# Altium schematic symbol library MCU_ST_STM32L4.SchLib: 130 symbols (part 1 of 5)
Pins are listed as number, name and electrical type; pins without a type are passive.

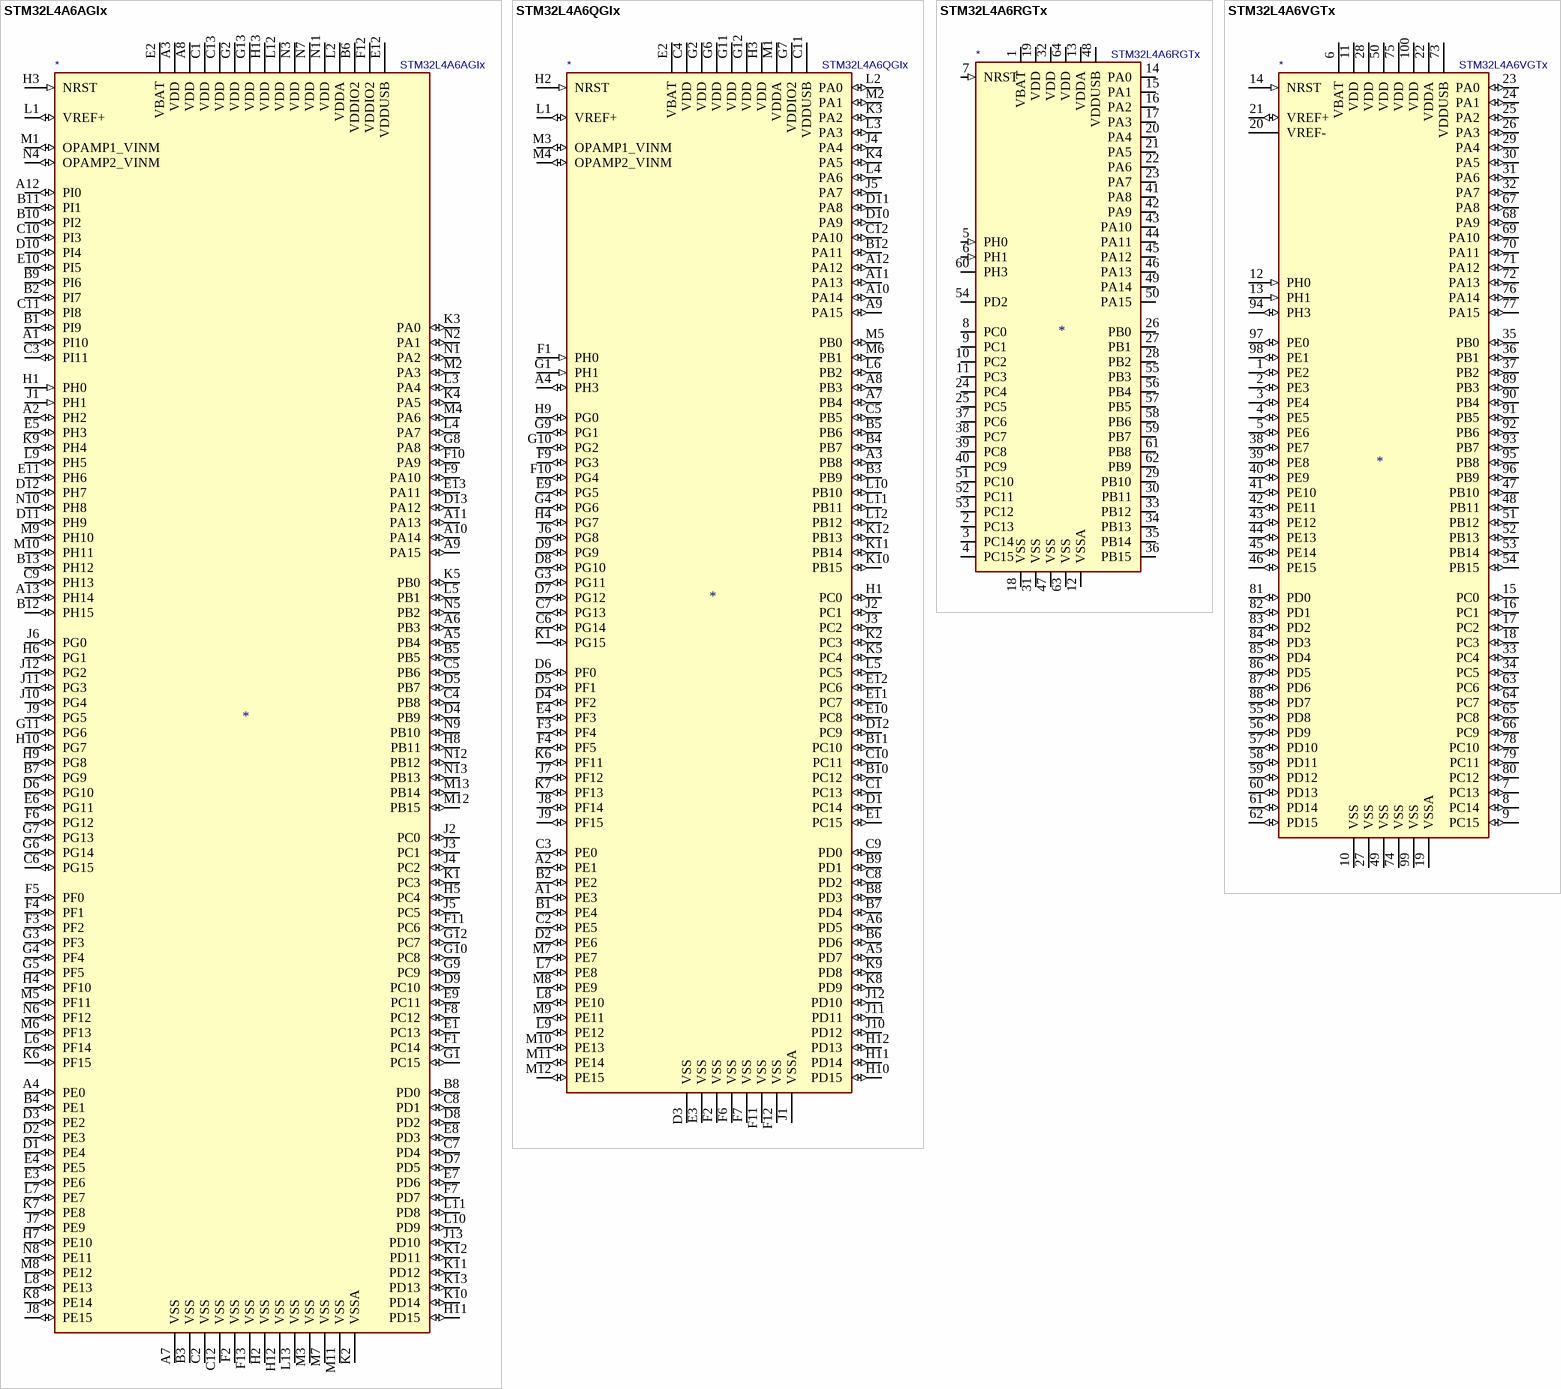
[diagram p0: symbols STM32L4A6AGIx to STM32L4A6VGTx]

## STM32L4A6AGIx
designator *  value STM32L4A6AGIx
ki_keywords: ARM Cortex-M4 STM32L4 STM32L4x6; ki_description: ARM Cortex-M4 MCU, 1024KB flash, 320KB RAM, 80MHz, 1.71-3.6V, 136 GPIO, UFBGA-169; ki_fp_filters: UFBGA*7x7mm*Layout13x13*P0.5mm*; Footprint: Package_BGA:UFBGA-169_7x7mm_Layout13x13_P0.5mm; Supplier: http://www.st.com/st-web-ui/static/active/en/resource/technical/document/datasheet/DM00284207.pdf
footprint UFBGA-169_7x7mm_Layout13x13_P0.5mm
pins: A1 PI10 (io), A2 PH2 (io), A3 VDD (power), A4 PE0 (io), A5 PB4 (io), A6 PB3 (io), A7 VSS (power), A8 VDD (power), A9 PA15 (io), A10 PA14 (io), A11 PA13 (io), A12 PI0 (io), A13 PH14 (io), B1 PI9 (io), B2 PI7 (io), B3 VSS (power), B4 PE1 (io), B5 PB5 (io), B6 VDDIO2 (power), B7 PG9 (io), B8 PD0 (io), B9 PI6 (io), B10 PI2 (io), B11 PI1 (io), B12 PH15 (io), B13 PH12 (io), C1 VDD (power), C2 VSS (power), C3 PI11 (io), C4 PB8 (io), C5 PB6 (io), C6 PG15 (io), C7 PD4 (io), C8 PD1 (io), C9 PH13 (io), C10 PI3 (io), C11 PI8 (io), C12 VSS (power), C13 VDD (power), D1 PE4 (io), D2 PE3 (io), D3 PE2 (io), D4 PB9 (io), D5 PB7 (io), D6 PG10 (io), D7 PD5 (io), D8 PD2 (io), D9 PC10 (io), D10 PI4 (io), D11 PH9 (io), D12 PH7 (io), D13 PA12 (io), E1 PC13 (io), E2 VBAT (power), E3 PE6 (io), E4 PE5 (io), E5 PH3 (io), E6 PG11 (io), E7 PD6 (io), E8 PD3 (io), E9 PC11 (io), E10 PI5 (io), E11 PH6 (io), E12 VDDUSB (power), E13 PA11 (io), F1 PC14 (io), F2 VSS (power), F3 PF2 (io), F4 PF1 (io), F5 PF0 (io), F6 PG12 (io), F7 PD7 (io), F8 PC12 (io), F9 PA10 (io), F10 PA9 (io), F11 PC6 (io), F12 VDDIO2 (power), F13 VSS (power), G1 PC15 (io), G2 VDD (power), G3 PF3 (io), G4 PF4 (io), G5 PF5 (io), G6 PG14 (io), G7 PG13 (io), G8 PA8 (io), G9 PC9 (io), G10 PC8 (io), G11 PG6 (io), G12 PC7 (io), G13 VDD (power), H1 PH0 (in), H2 VSS (power), H3 NRST (in), H4 PF10 (io), H5 PC4 (io), H6 PG1 (io), H7 PE10 (io), H8 PB11 (io), H9 PG8 (io), H10 PG7 (io), H11 PD15 (io), H12 VSS (power), H13 VDD (power), J1 PH1 (in), J2 PC0 (io), J3 PC1 (io), J4 PC2 (io), J5 PC5 (io), J6 PG0 (io), J7 PE9 (io), J8 PE15 (io), J9 PG5 (io), J10 PG4 (io), J11 PG3 (io), J12 PG2 (io), J13 PD10 (io), K1 PC3 (io), K2 VSSA (power), K3 PA0 (io), K4 PA5 (io), K5 PB0 (io), K6 PF15 (io), K7 PE8 (io), K8 PE14 (io), K9 PH4 (io), K10 PD14 (io), K11 PD12 (io), K12 PD11 (io), K13 PD13 (io), L1 VREF+ (io), L2 VDDA (power), L3 PA4 (io), L4 PA7 (io), L5 PB1 (io), L6 PF14 (io), L7 PE7 (io), L8 PE13 (io), L9 PH5 (io), L10 PD9 (io), L11 PD8 (io), L12 VDD (power), L13 VSS (power), M1 OPAMP1_VINM (io), M2 PA3 (io), M3 VSS (power), M4 PA6 (io), M5 PF11 (io), M6 PF13 (io), M7 VSS (power), M8 PE12 (io), M9 PH10 (io), M10 PH11 (io), M11 VSS (power), M12 PB15 (io), M13 PB14 (io), N1 PA2 (io), N2 PA1 (io), N3 VDD (power), N4 OPAMP2_VINM (io), N5 PB2 (io), N6 PF12 (io), N7 VDD (power), N8 PE11 (io), N9 PB10 (io), N10 PH8 (io), N11 VDD (power), N12 PB12 (io), N13 PB13 (io)

## STM32L4A6QGIx
designator *  value STM32L4A6QGIx
ki_keywords: ARM Cortex-M4 STM32L4 STM32L4x6; ki_description: ARM Cortex-M4 MCU, 1024KB flash, 320KB RAM, 80MHz, 1.71-3.6V, 110 GPIO, UFBGA-132; ki_fp_filters: UFBGA*7x7mm*Layout12x12*P0.5mm*; Footprint: Package_BGA:UFBGA-132_7x7mm_Layout12x12_P0.5mm; Supplier: http://www.st.com/st-web-ui/static/active/en/resource/technical/document/datasheet/DM00284207.pdf
footprint UFBGA-132_7x7mm_Layout12x12_P0.5mm
pins: A1 PE3 (io), A2 PE1 (io), A3 PB8 (io), A4 PH3 (io), A5 PD7 (io), A6 PD5 (io), A7 PB4 (io), A8 PB3 (io), A9 PA15 (io), A10 PA14 (io), A11 PA13 (io), A12 PA12 (io), B1 PE4 (io), B2 PE2 (io), B3 PB9 (io), B4 PB7 (io), B5 PB6 (io), B6 PD6 (io), B7 PD4 (io), B8 PD3 (io), B9 PD1 (io), B10 PC12 (io), B11 PC10 (io), B12 PA11 (io), C1 PC13 (io), C2 PE5 (io), C3 PE0 (io), C4 VDD (power), C5 PB5 (io), C6 PG14 (io), C7 PG13 (io), C8 PD2 (io), C9 PD0 (io), C10 PC11 (io), C11 VDDUSB (power), C12 PA10 (io), D1 PC14 (io), D2 PE6 (io), D3 VSS (power), D4 PF2 (io), D5 PF1 (io), D6 PF0 (io), D7 PG12 (io), D8 PG10 (io), D9 PG9 (io), D10 PA9 (io), D11 PA8 (io), D12 PC9 (io), E1 PC15 (io), E2 VBAT (power), E3 VSS (power), E4 PF3 (io), E9 PG5 (io), E10 PC8 (io), E11 PC7 (io), E12 PC6 (io), F1 PH0 (in), F2 VSS (power), F3 PF4 (io), F4 PF5 (io), F6 VSS (power), F7 VSS (power), F9 PG3 (io), F10 PG4 (io), F11 VSS (power), F12 VSS (power), G1 PH1 (in), G2 VDD (power), G3 PG11 (io), G4 PG6 (io), G6 VDD (power), G7 VDDIO2 (power), G9 PG1 (io), G10 PG2 (io), G11 VDD (power), G12 VDD (power), H1 PC0 (io), H2 NRST (in), H3 VDD (power), H4 PG7 (io), H9 PG0 (io), H10 PD15 (io), H11 PD14 (io), H12 PD13 (io), J1 VSSA (power), J2 PC1 (io), J3 PC2 (io), J4 PA4 (io), J5 PA7 (io), J6 PG8 (io), J7 PF12 (io), J8 PF14 (io), J9 PF15 (io), J10 PD12 (io), J11 PD11 (io), J12 PD10 (io), K1 PG15 (io), K2 PC3 (io), K3 PA2 (io), K4 PA5 (io), K5 PC4 (io), K6 PF11 (io), K7 PF13 (io), K8 PD9 (io), K9 PD8 (io), K10 PB15 (io), K11 PB14 (io), K12 PB13 (io), L1 VREF+ (io), L2 PA0 (io), L3 PA3 (io), L4 PA6 (io), L5 PC5 (io), L6 PB2 (io), L7 PE8 (io), L8 PE10 (io), L9 PE12 (io), L10 PB10 (io), L11 PB11 (io), L12 PB12 (io), M1 VDDA (power), M2 PA1 (io), M3 OPAMP1_VINM (io), M4 OPAMP2_VINM (io), M5 PB0 (io), M6 PB1 (io), M7 PE7 (io), M8 PE9 (io), M9 PE11 (io), M10 PE13 (io), M11 PE14 (io), M12 PE15 (io)

## STM32L4A6RGTx
designator *  value STM32L4A6RGTx
ki_keywords: ARM Cortex-M4 STM32L4 STM32L4x6; ki_description: ARM Cortex-M4 MCU, 1024KB flash, 320KB RAM, 80MHz, 1.71-3.6V, 52 GPIO, LQFP-64; ki_fp_filters: LQFP*10x10mm*P0.5mm*; Footprint: Package_QFP:LQFP-64_10x10mm_P0.5mm; Supplier: http://www.st.com/st-web-ui/static/active/en/resource/technical/document/datasheet/DM00284207.pdf
footprint LQFP-64_10x10mm_P0.5mm
pins: 1 VBAT (power), 2 PC13 (io), 3 PC14 (io), 4 PC15 (io), 5 PH0 (in), 6 PH1 (in), 7 NRST (in), 8 PC0 (io), 9 PC1 (io), 10 PC2 (io), 11 PC3 (io), 12 VSSA (power), 13 VDDA (power), 14 PA0 (io), 15 PA1 (io), 16 PA2 (io), 17 PA3 (io), 18 VSS (power), 19 VDD (power), 20 PA4 (io), 21 PA5 (io), 22 PA6 (io), 23 PA7 (io), 24 PC4 (io), 25 PC5 (io), 26 PB0 (io), 27 PB1 (io), 28 PB2 (io), 29 PB10 (io), 30 PB11 (io), 31 VSS (power), 32 VDD (power), 33 PB12 (io), 34 PB13 (io), 35 PB14 (io), 36 PB15 (io), 37 PC6 (io), 38 PC7 (io), 39 PC8 (io), 40 PC9 (io), 41 PA8 (io), 42 PA9 (io), 43 PA10 (io), 44 PA11 (io), 45 PA12 (io), 46 PA13 (io), 47 VSS (power), 48 VDDUSB (power), 49 PA14 (io), 50 PA15 (io), 51 PC10 (io), 52 PC11 (io), 53 PC12 (io), 54 PD2 (io), 55 PB3 (io), 56 PB4 (io), 57 PB5 (io), 58 PB6 (io), 59 PB7 (io), 60 PH3 (io), 61 PB8 (io), 62 PB9 (io), 63 VSS (power), 64 VDD (power)

## STM32L4A6VGTx
designator *  value STM32L4A6VGTx
ki_keywords: ARM Cortex-M4 STM32L4 STM32L4x6; ki_description: ARM Cortex-M4 MCU, 1024KB flash, 320KB RAM, 80MHz, 1.71-3.6V, 83 GPIO, LQFP-100; ki_fp_filters: LQFP*14x14mm*P0.5mm*; Footprint: Package_QFP:LQFP-100_14x14mm_P0.5mm; Supplier: http://www.st.com/st-web-ui/static/active/en/resource/technical/document/datasheet/DM00284207.pdf
footprint LQFP-100_14x14mm_P0.5mm
pins: 1 PE2 (io), 2 PE3 (io), 3 PE4 (io), 4 PE5 (io), 5 PE6 (io), 6 VBAT (power), 7 PC13 (io), 8 PC14 (io), 9 PC15 (io), 10 VSS (power), 11 VDD (power), 12 PH0 (in), 13 PH1 (in), 14 NRST (in), 15 PC0 (io), 16 PC1 (io), 17 PC2 (io), 18 PC3 (io), 19 VSSA (power), 20 VREF- (power), 21 VREF+ (io), 22 VDDA (power), 23 PA0 (io), 24 PA1 (io), 25 PA2 (io), 26 PA3 (io), 27 VSS (power), 28 VDD (power), 29 PA4 (io), 30 PA5 (io), 31 PA6 (io), 32 PA7 (io), 33 PC4 (io), 34 PC5 (io), 35 PB0 (io), 36 PB1 (io), 37 PB2 (io), 38 PE7 (io), 39 PE8 (io), 40 PE9 (io), 41 PE10 (io), 42 PE11 (io), 43 PE12 (io), 44 PE13 (io), 45 PE14 (io), 46 PE15 (io), 47 PB10 (io), 48 PB11 (io), 49 VSS (power), 50 VDD (power), 51 PB12 (io), 52 PB13 (io), 53 PB14 (io), 54 PB15 (io), 55 PD8 (io), 56 PD9 (io), 57 PD10 (io), 58 PD11 (io), 59 PD12 (io), 60 PD13 (io), 61 PD14 (io), 62 PD15 (io), 63 PC6 (io), 64 PC7 (io), 65 PC8 (io), 66 PC9 (io), 67 PA8 (io), 68 PA9 (io), 69 PA10 (io), 70 PA11 (io), 71 PA12 (io), 72 PA13 (io), 73 VDDUSB (power), 74 VSS (power), 75 VDD (power), 76 PA14 (io), 77 PA15 (io), 78 PC10 (io), 79 PC11 (io), 80 PC12 (io), 81 PD0 (io), 82 PD1 (io), 83 PD2 (io), 84 PD3 (io), 85 PD4 (io), 86 PD5 (io), 87 PD6 (io), 88 PD7 (io), 89 PB3 (io), 90 PB4 (io), 91 PB5 (io), 92 PB6 (io), 93 PB7 (io), 94 PH3 (io), 95 PB8 (io), 96 PB9 (io), 97 PE0 (io), 98 PE1 (io), 99 VSS (power), 100 VDD (power)

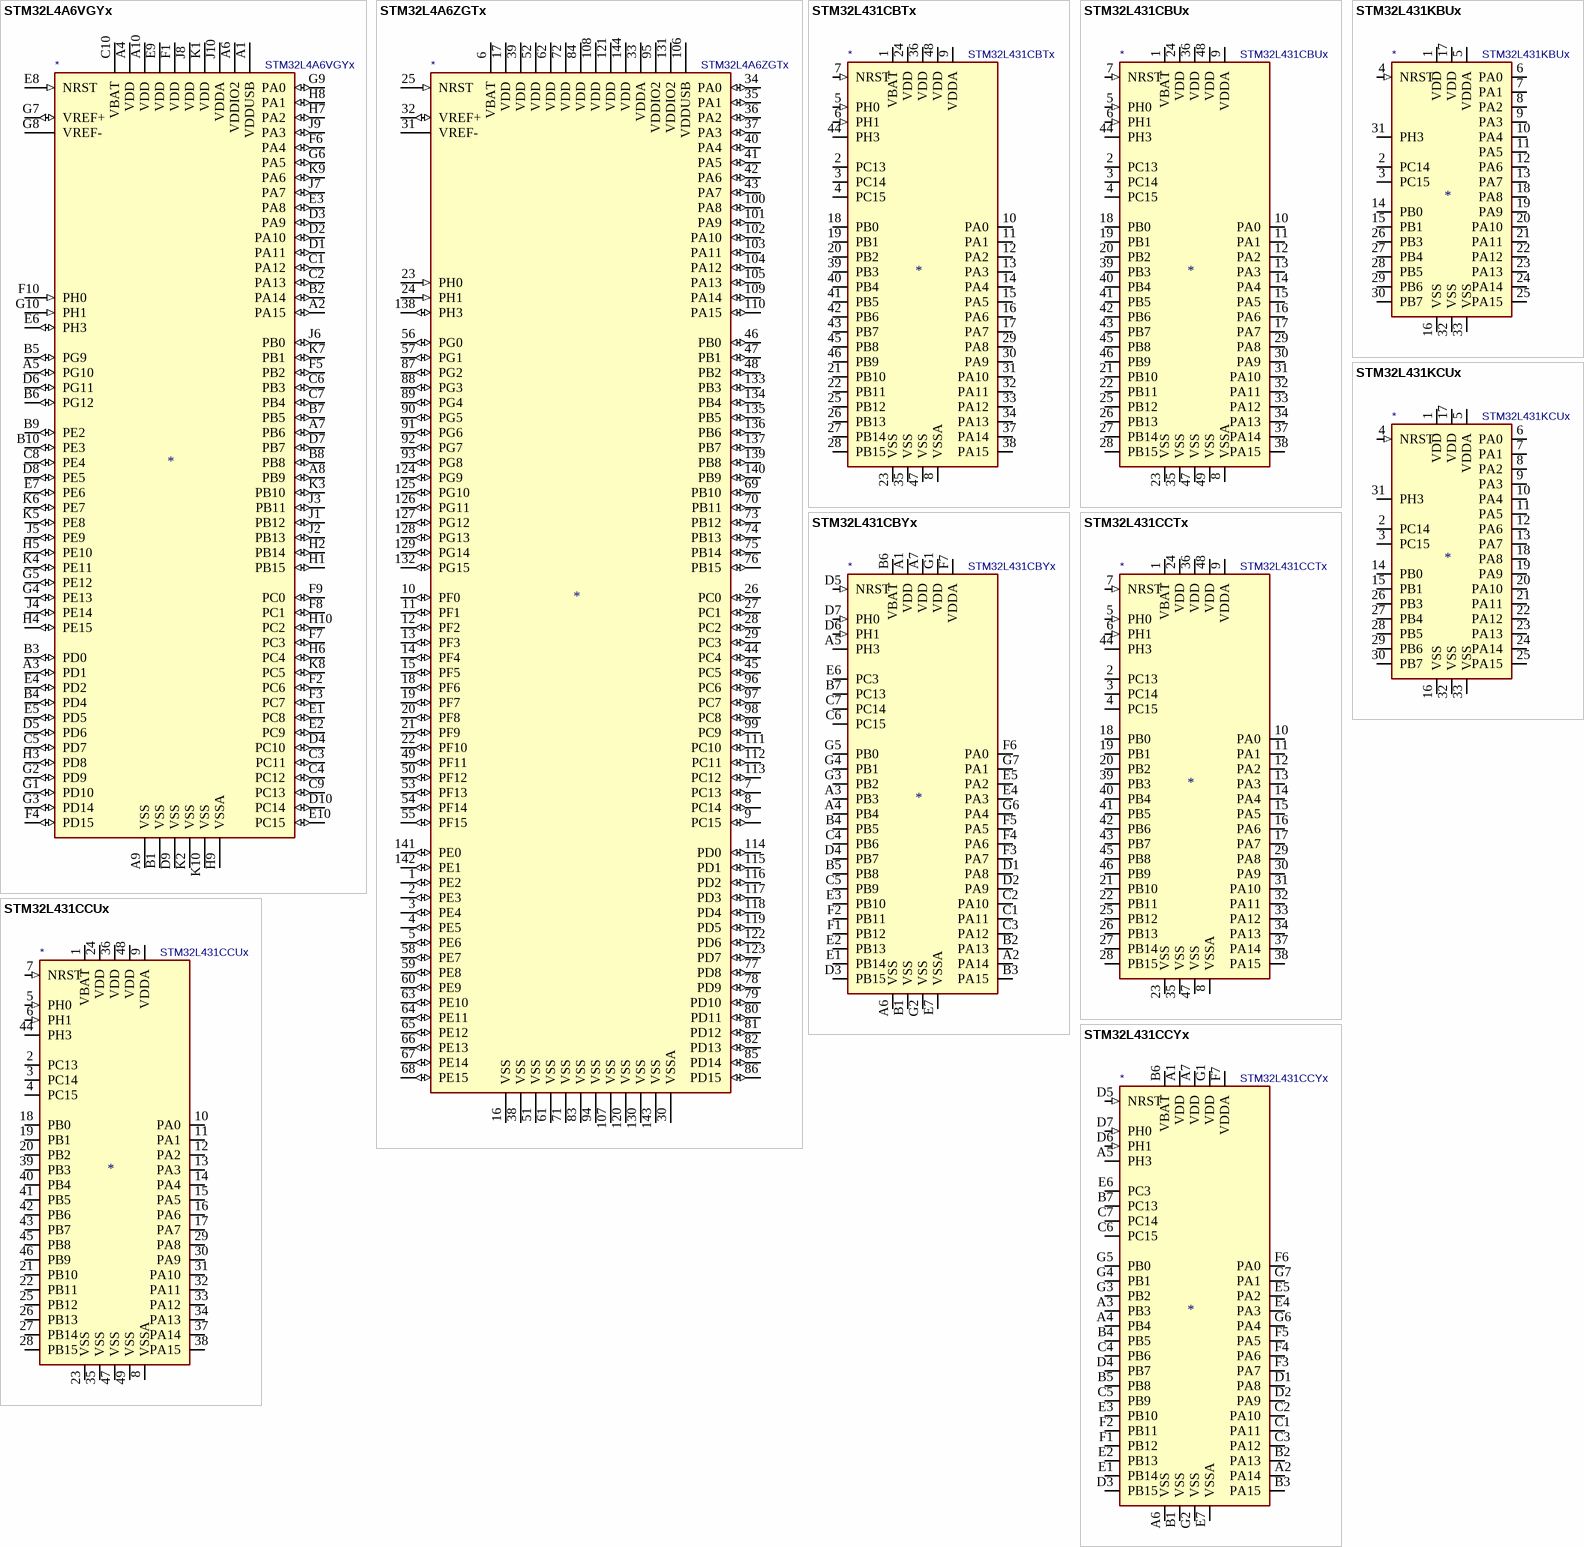
[diagram p1: symbols STM32L4A6VGYx to STM32L431KCUx]

## STM32L4A6VGYx
designator *  value STM32L4A6VGYx
ki_keywords: ARM Cortex-M4 STM32L4 STM32L4x6; ki_description: ARM Cortex-M4 MCU, 1024KB flash, 320KB RAM, 80MHz, 1.71-3.6V, 81 GPIO, WLCSP-100; ki_fp_filters: ST_WLCSP*Die461*; Footprint: Package_CSP:ST_WLCSP-100_Die461; Supplier: http://www.st.com/st-web-ui/static/active/en/resource/technical/document/datasheet/DM00284207.pdf
footprint ST_WLCSP-100_Die461
pins: A1 VDDUSB (power), A2 PA15 (io), A3 PD1 (io), A4 VDD (power), A5 PG10 (io), A6 VDDIO2 (power), A7 PB6 (io), A8 PB9 (io), A9 VSS (power), A10 VDD (power), B1 VSS (power), B2 PA14 (io), B3 PD0 (io), B4 PD4 (io), B5 PG9 (io), B6 PG12 (io), B7 PB5 (io), B8 PB8 (io), B9 PE2 (io), B10 PE3 (io), C1 PA12 (io), C2 PA13 (io), C3 PC11 (io), C4 PC12 (io), C5 PD7 (io), C6 PB3 (io), C7 PB4 (io), C8 PE4 (io), C9 PC13 (io), C10 VBAT (power), D1 PA11 (io), D2 PA10 (io), D3 PA9 (io), D4 PC10 (io), D5 PD6 (io), D6 PG11 (io), D7 PB7 (io), D8 PE5 (io), D9 VSS (power), D10 PC14 (io), E1 PC8 (io), E2 PC9 (io), E3 PA8 (io), E4 PD2 (io), E5 PD5 (io), E6 PH3 (io), E7 PE6 (io), E8 NRST (in), E9 VDD (power), E10 PC15 (io), F1 VDD (power), F2 PC6 (io), F3 PC7 (io), F4 PD15 (io), F5 PB2 (io), F6 PA4 (io), F7 PC3 (io), F8 PC1 (io), F9 PC0 (io), F10 PH0 (in), G1 PD10 (io), G2 PD9 (io), G3 PD14 (io), G4 PE13 (io), G5 PE12 (io), G6 PA5 (io), G7 VREF+ (io), G8 VREF- (power), G9 PA0 (io), G10 PH1 (in), H1 PB15 (io), H2 PB14 (io), H3 PD8 (io), H4 PE15 (io), H5 PE10 (io), H6 PC4 (io), H7 PA2 (io), H8 PA1 (io), H9 VSSA (power), H10 PC2 (io), J1 PB12 (io), J2 PB13 (io), J3 PB11 (io), J4 PE14 (io), J5 PE9 (io), J6 PB0 (io), J7 PA7 (io), J8 VDD (power), J9 PA3 (io), J10 VDDA (power), K1 VDD (power), K2 VSS (power), K3 PB10 (io), K4 PE11 (io), K5 PE8 (io), K6 PE7 (io), K7 PB1 (io), K8 PC5 (io), K9 PA6 (io), K10 VSS (power)

## STM32L4A6ZGTx
designator *  value STM32L4A6ZGTx
ki_keywords: ARM Cortex-M4 STM32L4 STM32L4x6; ki_description: ARM Cortex-M4 MCU, 1024KB flash, 320KB RAM, 80MHz, 1.71-3.6V, 115 GPIO, LQFP-144; ki_fp_filters: LQFP*20x20mm*P0.5mm*; Footprint: Package_QFP:LQFP-144_20x20mm_P0.5mm; Supplier: http://www.st.com/st-web-ui/static/active/en/resource/technical/document/datasheet/DM00284207.pdf
footprint LQFP-144_20x20mm_P0.5mm
pins: 1 PE2 (io), 2 PE3 (io), 3 PE4 (io), 4 PE5 (io), 5 PE6 (io), 6 VBAT (power), 7 PC13 (io), 8 PC14 (io), 9 PC15 (io), 10 PF0 (io), 11 PF1 (io), 12 PF2 (io), 13 PF3 (io), 14 PF4 (io), 15 PF5 (io), 16 VSS (power), 17 VDD (power), 18 PF6 (io), 19 PF7 (io), 20 PF8 (io), 21 PF9 (io), 22 PF10 (io), 23 PH0 (in), 24 PH1 (in), 25 NRST (in), 26 PC0 (io), 27 PC1 (io), 28 PC2 (io), 29 PC3 (io), 30 VSSA (power), 31 VREF- (power), 32 VREF+ (io), 33 VDDA (power), 34 PA0 (io), 35 PA1 (io), 36 PA2 (io), 37 PA3 (io), 38 VSS (power), 39 VDD (power), 40 PA4 (io), 41 PA5 (io), 42 PA6 (io), 43 PA7 (io), 44 PC4 (io), 45 PC5 (io), 46 PB0 (io), 47 PB1 (io), 48 PB2 (io), 49 PF11 (io), 50 PF12 (io), 51 VSS (power), 52 VDD (power), 53 PF13 (io), 54 PF14 (io), 55 PF15 (io), 56 PG0 (io), 57 PG1 (io), 58 PE7 (io), 59 PE8 (io), 60 PE9 (io), 61 VSS (power), 62 VDD (power), 63 PE10 (io), 64 PE11 (io), 65 PE12 (io), 66 PE13 (io), 67 PE14 (io), 68 PE15 (io), 69 PB10 (io), 70 PB11 (io), 71 VSS (power), 72 VDD (power), 73 PB12 (io), 74 PB13 (io), 75 PB14 (io), 76 PB15 (io), 77 PD8 (io), 78 PD9 (io), 79 PD10 (io), 80 PD11 (io), 81 PD12 (io), 82 PD13 (io), 83 VSS (power), 84 VDD (power), 85 PD14 (io), 86 PD15 (io), 87 PG2 (io), 88 PG3 (io), 89 PG4 (io), 90 PG5 (io), 91 PG6 (io), 92 PG7 (io), 93 PG8 (io), 94 VSS (power), 95 VDDIO2 (power), 96 PC6 (io), 97 PC7 (io), 98 PC8 (io), 99 PC9 (io), 100 PA8 (io), 101 PA9 (io), 102 PA10 (io), 103 PA11 (io), 104 PA12 (io), 105 PA13 (io), 106 VDDUSB (power), 107 VSS (power), 108 VDD (power), 109 PA14 (io), 110 PA15 (io), 111 PC10 (io), 112 PC11 (io), 113 PC12 (io), 114 PD0 (io), 115 PD1 (io), 116 PD2 (io), 117 PD3 (io), 118 PD4 (io), 119 PD5 (io), 120 VSS (power), 121 VDD (power), 122 PD6 (io), 123 PD7 (io), 124 PG9 (io), 125 PG10 (io), 126 PG11 (io), 127 PG12 (io), 128 PG13 (io), 129 PG14 (io), 130 VSS (power), 131 VDDIO2 (power), 132 PG15 (io), 133 PB3 (io), 134 PB4 (io), 135 PB5 (io), 136 PB6 (io), 137 PB7 (io), 138 PH3 (io), 139 PB8 (io), 140 PB9 (io), 141 PE0 (io), 142 PE1 (io), 143 VSS (power), 144 VDD (power)

## STM32L431CBTx
designator *  value STM32L431CBTx
ki_keywords: ARM Cortex-M4 STM32L4 STM32L4x1; ki_description: ARM Cortex-M4 MCU, 128KB flash, 64KB RAM, 80MHz, 1.71-3.6V, 38 GPIO, LQFP-48; ki_fp_filters: LQFP*7x7mm*P0.5mm*; Footprint: Package_QFP:LQFP-48_7x7mm_P0.5mm; Supplier: http://www.st.com/st-web-ui/static/active/en/resource/technical/document/datasheet/DM00257211.pdf
footprint LQFP-48_7x7mm_P0.5mm
pins: 1 VBAT (power), 2 PC13 (io), 3 PC14 (io), 4 PC15 (io), 5 PH0 (in), 6 PH1 (in), 7 NRST (in), 8 VSSA (power), 9 VDDA (power), 10 PA0 (io), 11 PA1 (io), 12 PA2 (io), 13 PA3 (io), 14 PA4 (io), 15 PA5 (io), 16 PA6 (io), 17 PA7 (io), 18 PB0 (io), 19 PB1 (io), 20 PB2 (io), 21 PB10 (io), 22 PB11 (io), 23 VSS (power), 24 VDD (power), 25 PB12 (io), 26 PB13 (io), 27 PB14 (io), 28 PB15 (io), 29 PA8 (io), 30 PA9 (io), 31 PA10 (io), 32 PA11 (io), 33 PA12 (io), 34 PA13 (io), 35 VSS (power), 36 VDD (power), 37 PA14 (io), 38 PA15 (io), 39 PB3 (io), 40 PB4 (io), 41 PB5 (io), 42 PB6 (io), 43 PB7 (io), 44 PH3 (io), 45 PB8 (io), 46 PB9 (io), 47 VSS (power), 48 VDD (power)

## STM32L431CBUx
designator *  value STM32L431CBUx
ki_keywords: ARM Cortex-M4 STM32L4 STM32L4x1; ki_description: ARM Cortex-M4 MCU, 128KB flash, 64KB RAM, 80MHz, 1.71-3.6V, 38 GPIO, UFQFPN-48; ki_fp_filters: QFN*1EP*7x7mm*P0.5mm*; Footprint: Package_DFN_QFN:QFN-48-1EP_7x7mm_P0.5mm_EP5.6x5.6mm; Supplier: http://www.st.com/st-web-ui/static/active/en/resource/technical/document/datasheet/DM00257211.pdf
footprint QFN-48-1EP_7x7mm_P0.5mm_EP5.6x5.6mm
pins: 1 VBAT (power), 2 PC13 (io), 3 PC14 (io), 4 PC15 (io), 5 PH0 (in), 6 PH1 (in), 7 NRST (in), 8 VSSA (power), 9 VDDA (power), 10 PA0 (io), 11 PA1 (io), 12 PA2 (io), 13 PA3 (io), 14 PA4 (io), 15 PA5 (io), 16 PA6 (io), 17 PA7 (io), 18 PB0 (io), 19 PB1 (io), 20 PB2 (io), 21 PB10 (io), 22 PB11 (io), 23 VSS (power), 24 VDD (power), 25 PB12 (io), 26 PB13 (io), 27 PB14 (io), 28 PB15 (io), 29 PA8 (io), 30 PA9 (io), 31 PA10 (io), 32 PA11 (io), 33 PA12 (io), 34 PA13 (io), 35 VSS (power), 36 VDD (power), 37 PA14 (io), 38 PA15 (io), 39 PB3 (io), 40 PB4 (io), 41 PB5 (io), 42 PB6 (io), 43 PB7 (io), 44 PH3 (io), 45 PB8 (io), 46 PB9 (io), 47 VSS (power), 48 VDD (power), 49 VSS (power)

## STM32L431CBYx
designator *  value STM32L431CBYx
ki_keywords: ARM Cortex-M4 STM32L4 STM32L4x1; ki_description: ARM Cortex-M4 MCU, 128KB flash, 64KB RAM, 80MHz, 1.71-3.6V, 39 GPIO, WLCSP-49; ki_fp_filters: ST_WLCSP*Die435*; Footprint: Package_CSP:ST_WLCSP-49_Die435; Supplier: http://www.st.com/st-web-ui/static/active/en/resource/technical/document/datasheet/DM00257211.pdf
footprint ST_WLCSP-49_Die435
pins: A1 VDD (power), A2 PA14 (io), A3 PB3 (io), A4 PB4 (io), A5 PH3 (io), A6 VSS (power), A7 VDD (power), B1 VSS (power), B2 PA13 (io), B3 PA15 (io), B4 PB5 (io), B5 PB8 (io), B6 VBAT (power), B7 PC13 (io), C1 PA11 (io), C2 PA10 (io), C3 PA12 (io), C4 PB6 (io), C5 PB9 (io), C6 PC15 (io), C7 PC14 (io), D1 PA8 (io), D2 PA9 (io), D3 PB15 (io), D4 PB7 (io), D5 NRST (in), D6 PH1 (in), D7 PH0 (in), E1 PB14 (io), E2 PB13 (io), E3 PB10 (io), E4 PA3 (io), E5 PA2 (io), E6 PC3 (io), E7 VSSA (power), F1 PB12 (io), F2 PB11 (io), F3 PA7 (io), F4 PA6 (io), F5 PA5 (io), F6 PA0 (io), F7 VDDA (power), G1 VDD (power), G2 VSS (power), G3 PB2 (io), G4 PB1 (io), G5 PB0 (io), G6 PA4 (io), G7 PA1 (io)

## STM32L431CCTx
designator *  value STM32L431CCTx
ki_keywords: ARM Cortex-M4 STM32L4 STM32L4x1; ki_description: ARM Cortex-M4 MCU, 256KB flash, 64KB RAM, 80MHz, 1.71-3.6V, 38 GPIO, LQFP-48; ki_fp_filters: LQFP*7x7mm*P0.5mm*; Footprint: Package_QFP:LQFP-48_7x7mm_P0.5mm; Supplier: http://www.st.com/st-web-ui/static/active/en/resource/technical/document/datasheet/DM00257211.pdf
footprint LQFP-48_7x7mm_P0.5mm
pins: 1 VBAT (power), 2 PC13 (io), 3 PC14 (io), 4 PC15 (io), 5 PH0 (in), 6 PH1 (in), 7 NRST (in), 8 VSSA (power), 9 VDDA (power), 10 PA0 (io), 11 PA1 (io), 12 PA2 (io), 13 PA3 (io), 14 PA4 (io), 15 PA5 (io), 16 PA6 (io), 17 PA7 (io), 18 PB0 (io), 19 PB1 (io), 20 PB2 (io), 21 PB10 (io), 22 PB11 (io), 23 VSS (power), 24 VDD (power), 25 PB12 (io), 26 PB13 (io), 27 PB14 (io), 28 PB15 (io), 29 PA8 (io), 30 PA9 (io), 31 PA10 (io), 32 PA11 (io), 33 PA12 (io), 34 PA13 (io), 35 VSS (power), 36 VDD (power), 37 PA14 (io), 38 PA15 (io), 39 PB3 (io), 40 PB4 (io), 41 PB5 (io), 42 PB6 (io), 43 PB7 (io), 44 PH3 (io), 45 PB8 (io), 46 PB9 (io), 47 VSS (power), 48 VDD (power)

## STM32L431CCUx
designator *  value STM32L431CCUx
ki_keywords: ARM Cortex-M4 STM32L4 STM32L4x1; ki_description: ARM Cortex-M4 MCU, 256KB flash, 64KB RAM, 80MHz, 1.71-3.6V, 38 GPIO, UFQFPN-48; ki_fp_filters: QFN*1EP*7x7mm*P0.5mm*; Footprint: Package_DFN_QFN:QFN-48-1EP_7x7mm_P0.5mm_EP5.6x5.6mm; Supplier: http://www.st.com/st-web-ui/static/active/en/resource/technical/document/datasheet/DM00257211.pdf
footprint QFN-48-1EP_7x7mm_P0.5mm_EP5.6x5.6mm
pins: 1 VBAT (power), 2 PC13 (io), 3 PC14 (io), 4 PC15 (io), 5 PH0 (in), 6 PH1 (in), 7 NRST (in), 8 VSSA (power), 9 VDDA (power), 10 PA0 (io), 11 PA1 (io), 12 PA2 (io), 13 PA3 (io), 14 PA4 (io), 15 PA5 (io), 16 PA6 (io), 17 PA7 (io), 18 PB0 (io), 19 PB1 (io), 20 PB2 (io), 21 PB10 (io), 22 PB11 (io), 23 VSS (power), 24 VDD (power), 25 PB12 (io), 26 PB13 (io), 27 PB14 (io), 28 PB15 (io), 29 PA8 (io), 30 PA9 (io), 31 PA10 (io), 32 PA11 (io), 33 PA12 (io), 34 PA13 (io), 35 VSS (power), 36 VDD (power), 37 PA14 (io), 38 PA15 (io), 39 PB3 (io), 40 PB4 (io), 41 PB5 (io), 42 PB6 (io), 43 PB7 (io), 44 PH3 (io), 45 PB8 (io), 46 PB9 (io), 47 VSS (power), 48 VDD (power), 49 VSS (power)

## STM32L431CCYx
designator *  value STM32L431CCYx
ki_keywords: ARM Cortex-M4 STM32L4 STM32L4x1; ki_description: ARM Cortex-M4 MCU, 256KB flash, 64KB RAM, 80MHz, 1.71-3.6V, 39 GPIO, WLCSP-49; ki_fp_filters: ST_WLCSP*Die435*; Footprint: Package_CSP:ST_WLCSP-49_Die435; Supplier: http://www.st.com/st-web-ui/static/active/en/resource/technical/document/datasheet/DM00257211.pdf
footprint ST_WLCSP-49_Die435
pins: A1 VDD (power), A2 PA14 (io), A3 PB3 (io), A4 PB4 (io), A5 PH3 (io), A6 VSS (power), A7 VDD (power), B1 VSS (power), B2 PA13 (io), B3 PA15 (io), B4 PB5 (io), B5 PB8 (io), B6 VBAT (power), B7 PC13 (io), C1 PA11 (io), C2 PA10 (io), C3 PA12 (io), C4 PB6 (io), C5 PB9 (io), C6 PC15 (io), C7 PC14 (io), D1 PA8 (io), D2 PA9 (io), D3 PB15 (io), D4 PB7 (io), D5 NRST (in), D6 PH1 (in), D7 PH0 (in), E1 PB14 (io), E2 PB13 (io), E3 PB10 (io), E4 PA3 (io), E5 PA2 (io), E6 PC3 (io), E7 VSSA (power), F1 PB12 (io), F2 PB11 (io), F3 PA7 (io), F4 PA6 (io), F5 PA5 (io), F6 PA0 (io), F7 VDDA (power), G1 VDD (power), G2 VSS (power), G3 PB2 (io), G4 PB1 (io), G5 PB0 (io), G6 PA4 (io), G7 PA1 (io)

## STM32L431KBUx
designator *  value STM32L431KBUx
ki_keywords: ARM Cortex-M4 STM32L4 STM32L4x1; ki_description: ARM Cortex-M4 MCU, 128KB flash, 64KB RAM, 80MHz, 1.71-3.6V, 26 GPIO, UFQFPN-32; ki_fp_filters: QFN*1EP*5x5mm*P0.5mm*; Footprint: Package_DFN_QFN:QFN-32-1EP_5x5mm_P0.5mm_EP3.45x3.45mm; Supplier: http://www.st.com/st-web-ui/static/active/en/resource/technical/document/datasheet/DM00257211.pdf
footprint QFN-32-1EP_5x5mm_P0.5mm_EP3.45x3.45mm
pins: 1 VDD (power), 2 PC14 (io), 3 PC15 (io), 4 NRST (in), 5 VDDA (power), 6 PA0 (io), 7 PA1 (io), 8 PA2 (io), 9 PA3 (io), 10 PA4 (io), 11 PA5 (io), 12 PA6 (io), 13 PA7 (io), 14 PB0 (io), 15 PB1 (io), 16 VSS (power), 17 VDD (power), 18 PA8 (io), 19 PA9 (io), 20 PA10 (io), 21 PA11 (io), 22 PA12 (io), 23 PA13 (io), 24 PA14 (io), 25 PA15 (io), 26 PB3 (io), 27 PB4 (io), 28 PB5 (io), 29 PB6 (io), 30 PB7 (io), 31 PH3 (io), 32 VSS (power), 33 VSS (power)

## STM32L431KCUx
designator *  value STM32L431KCUx
ki_keywords: ARM Cortex-M4 STM32L4 STM32L4x1; ki_description: ARM Cortex-M4 MCU, 256KB flash, 64KB RAM, 80MHz, 1.71-3.6V, 26 GPIO, UFQFPN-32; ki_fp_filters: QFN*1EP*5x5mm*P0.5mm*; Footprint: Package_DFN_QFN:QFN-32-1EP_5x5mm_P0.5mm_EP3.45x3.45mm; Supplier: http://www.st.com/st-web-ui/static/active/en/resource/technical/document/datasheet/DM00257211.pdf
footprint QFN-32-1EP_5x5mm_P0.5mm_EP3.45x3.45mm
pins: 1 VDD (power), 2 PC14 (io), 3 PC15 (io), 4 NRST (in), 5 VDDA (power), 6 PA0 (io), 7 PA1 (io), 8 PA2 (io), 9 PA3 (io), 10 PA4 (io), 11 PA5 (io), 12 PA6 (io), 13 PA7 (io), 14 PB0 (io), 15 PB1 (io), 16 VSS (power), 17 VDD (power), 18 PA8 (io), 19 PA9 (io), 20 PA10 (io), 21 PA11 (io), 22 PA12 (io), 23 PA13 (io), 24 PA14 (io), 25 PA15 (io), 26 PB3 (io), 27 PB4 (io), 28 PB5 (io), 29 PB6 (io), 30 PB7 (io), 31 PH3 (io), 32 VSS (power), 33 VSS (power)

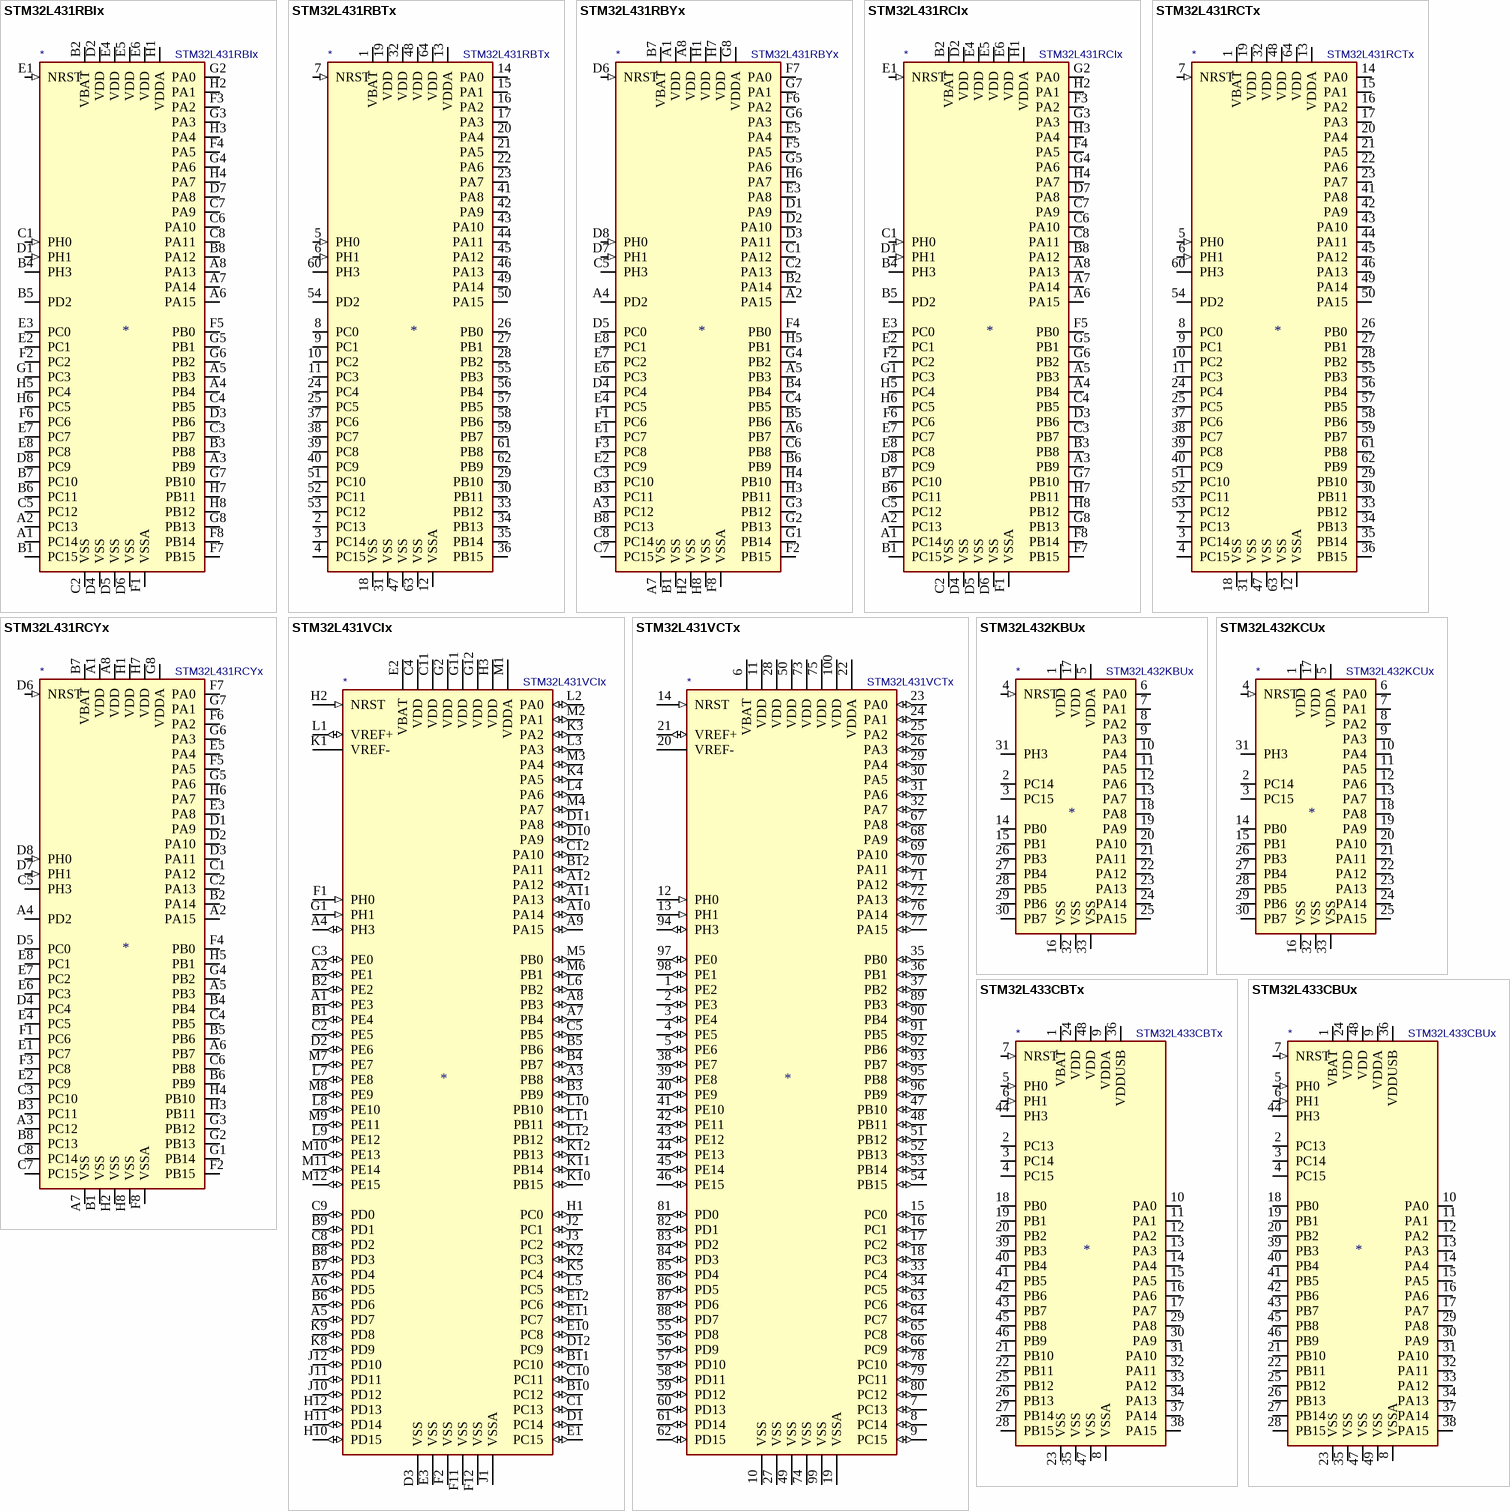
[diagram p2: symbols STM32L431RBIx to STM32L433CBUx]

## STM32L431RBIx
designator *  value STM32L431RBIx
ki_keywords: ARM Cortex-M4 STM32L4 STM32L4x1; ki_description: ARM Cortex-M4 MCU, 128KB flash, 64KB RAM, 80MHz, 1.71-3.6V, 52 GPIO, UFBGA-64; ki_fp_filters: UFBGA*5x5mm*Layout8x8*P0.5mm*; Footprint: Package_BGA:UFBGA-64_5x5mm_Layout8x8_P0.5mm; Supplier: http://www.st.com/st-web-ui/static/active/en/resource/technical/document/datasheet/DM00257211.pdf
footprint UFBGA-64_5x5mm_Layout8x8_P0.5mm
pins: A1 PC14 (io), A2 PC13 (io), A3 PB9 (io), A4 PB4 (io), A5 PB3 (io), A6 PA15 (io), A7 PA14 (io), A8 PA13 (io), B1 PC15 (io), B2 VBAT (power), B3 PB8 (io), B4 PH3 (io), B5 PD2 (io), B6 PC11 (io), B7 PC10 (io), B8 PA12 (io), C1 PH0 (in), C2 VSS (power), C3 PB7 (io), C4 PB5 (io), C5 PC12 (io), C6 PA10 (io), C7 PA9 (io), C8 PA11 (io), D1 PH1 (in), D2 VDD (power), D3 PB6 (io), D4 VSS (power), D5 VSS (power), D6 VSS (power), D7 PA8 (io), D8 PC9 (io), E1 NRST (in), E2 PC1 (io), E3 PC0 (io), E4 VDD (power), E5 VDD (power), E6 VDD (power), E7 PC7 (io), E8 PC8 (io), F1 VSSA (power), F2 PC2 (io), F3 PA2 (io), F4 PA5 (io), F5 PB0 (io), F6 PC6 (io), F7 PB15 (io), F8 PB14 (io), G1 PC3 (io), G2 PA0 (io), G3 PA3 (io), G4 PA6 (io), G5 PB1 (io), G6 PB2 (io), G7 PB10 (io), G8 PB13 (io), H1 VDDA (power), H2 PA1 (io), H3 PA4 (io), H4 PA7 (io), H5 PC4 (io), H6 PC5 (io), H7 PB11 (io), H8 PB12 (io)

## STM32L431RBTx
designator *  value STM32L431RBTx
ki_keywords: ARM Cortex-M4 STM32L4 STM32L4x1; ki_description: ARM Cortex-M4 MCU, 128KB flash, 64KB RAM, 80MHz, 1.71-3.6V, 52 GPIO, LQFP-64; ki_fp_filters: LQFP*10x10mm*P0.5mm*; Footprint: Package_QFP:LQFP-64_10x10mm_P0.5mm; Supplier: http://www.st.com/st-web-ui/static/active/en/resource/technical/document/datasheet/DM00257211.pdf
footprint LQFP-64_10x10mm_P0.5mm
pins: 1 VBAT (power), 2 PC13 (io), 3 PC14 (io), 4 PC15 (io), 5 PH0 (in), 6 PH1 (in), 7 NRST (in), 8 PC0 (io), 9 PC1 (io), 10 PC2 (io), 11 PC3 (io), 12 VSSA (power), 13 VDDA (power), 14 PA0 (io), 15 PA1 (io), 16 PA2 (io), 17 PA3 (io), 18 VSS (power), 19 VDD (power), 20 PA4 (io), 21 PA5 (io), 22 PA6 (io), 23 PA7 (io), 24 PC4 (io), 25 PC5 (io), 26 PB0 (io), 27 PB1 (io), 28 PB2 (io), 29 PB10 (io), 30 PB11 (io), 31 VSS (power), 32 VDD (power), 33 PB12 (io), 34 PB13 (io), 35 PB14 (io), 36 PB15 (io), 37 PC6 (io), 38 PC7 (io), 39 PC8 (io), 40 PC9 (io), 41 PA8 (io), 42 PA9 (io), 43 PA10 (io), 44 PA11 (io), 45 PA12 (io), 46 PA13 (io), 47 VSS (power), 48 VDD (power), 49 PA14 (io), 50 PA15 (io), 51 PC10 (io), 52 PC11 (io), 53 PC12 (io), 54 PD2 (io), 55 PB3 (io), 56 PB4 (io), 57 PB5 (io), 58 PB6 (io), 59 PB7 (io), 60 PH3 (io), 61 PB8 (io), 62 PB9 (io), 63 VSS (power), 64 VDD (power)

## STM32L431RBYx
designator *  value STM32L431RBYx
ki_keywords: ARM Cortex-M4 STM32L4 STM32L4x1; ki_description: ARM Cortex-M4 MCU, 128KB flash, 64KB RAM, 80MHz, 1.71-3.6V, 52 GPIO, WLCSP-64; ki_fp_filters: ST_WLCSP*Die435*; Footprint: Package_CSP:ST_WLCSP-64_Die435; Supplier: http://www.st.com/st-web-ui/static/active/en/resource/technical/document/datasheet/DM00257211.pdf
footprint ST_WLCSP-64_Die435
pins: A1 VDD (power), A2 PA15 (io), A3 PC12 (io), A4 PD2 (io), A5 PB3 (io), A6 PB7 (io), A7 VSS (power), A8 VDD (power), B1 VSS (power), B2 PA14 (io), B3 PC11 (io), B4 PB4 (io), B5 PB6 (io), B6 PB9 (io), B7 VBAT (power), B8 PC13 (io), C1 PA12 (io), C2 PA13 (io), C3 PC10 (io), C4 PB5 (io), C5 PH3 (io), C6 PB8 (io), C7 PC15 (io), C8 PC14 (io), D1 PA9 (io), D2 PA10 (io), D3 PA11 (io), D4 PC4 (io), D5 PC0 (io), D6 NRST (in), D7 PH1 (in), D8 PH0 (in), E1 PC7 (io), E2 PC9 (io), E3 PA8 (io), E4 PC5 (io), E5 PA4 (io), E6 PC3 (io), E7 PC2 (io), E8 PC1 (io), F1 PC6 (io), F2 PB15 (io), F3 PC8 (io), F4 PB0 (io), F5 PA5 (io), F6 PA2 (io), F7 PA0 (io), F8 VSSA (power), G1 PB14 (io), G2 PB13 (io), G3 PB12 (io), G4 PB2 (io), G5 PA6 (io), G6 PA3 (io), G7 PA1 (io), G8 VDDA (power), H1 VDD (power), H2 VSS (power), H3 PB11 (io), H4 PB10 (io), H5 PB1 (io), H6 PA7 (io), H7 VDD (power), H8 VSS (power)

## STM32L431RCIx
designator *  value STM32L431RCIx
ki_keywords: ARM Cortex-M4 STM32L4 STM32L4x1; ki_description: ARM Cortex-M4 MCU, 256KB flash, 64KB RAM, 80MHz, 1.71-3.6V, 52 GPIO, UFBGA-64; ki_fp_filters: UFBGA*5x5mm*Layout8x8*P0.5mm*; Footprint: Package_BGA:UFBGA-64_5x5mm_Layout8x8_P0.5mm; Supplier: http://www.st.com/st-web-ui/static/active/en/resource/technical/document/datasheet/DM00257211.pdf
footprint UFBGA-64_5x5mm_Layout8x8_P0.5mm
pins: A1 PC14 (io), A2 PC13 (io), A3 PB9 (io), A4 PB4 (io), A5 PB3 (io), A6 PA15 (io), A7 PA14 (io), A8 PA13 (io), B1 PC15 (io), B2 VBAT (power), B3 PB8 (io), B4 PH3 (io), B5 PD2 (io), B6 PC11 (io), B7 PC10 (io), B8 PA12 (io), C1 PH0 (in), C2 VSS (power), C3 PB7 (io), C4 PB5 (io), C5 PC12 (io), C6 PA10 (io), C7 PA9 (io), C8 PA11 (io), D1 PH1 (in), D2 VDD (power), D3 PB6 (io), D4 VSS (power), D5 VSS (power), D6 VSS (power), D7 PA8 (io), D8 PC9 (io), E1 NRST (in), E2 PC1 (io), E3 PC0 (io), E4 VDD (power), E5 VDD (power), E6 VDD (power), E7 PC7 (io), E8 PC8 (io), F1 VSSA (power), F2 PC2 (io), F3 PA2 (io), F4 PA5 (io), F5 PB0 (io), F6 PC6 (io), F7 PB15 (io), F8 PB14 (io), G1 PC3 (io), G2 PA0 (io), G3 PA3 (io), G4 PA6 (io), G5 PB1 (io), G6 PB2 (io), G7 PB10 (io), G8 PB13 (io), H1 VDDA (power), H2 PA1 (io), H3 PA4 (io), H4 PA7 (io), H5 PC4 (io), H6 PC5 (io), H7 PB11 (io), H8 PB12 (io)

## STM32L431RCTx
designator *  value STM32L431RCTx
ki_keywords: ARM Cortex-M4 STM32L4 STM32L4x1; ki_description: ARM Cortex-M4 MCU, 256KB flash, 64KB RAM, 80MHz, 1.71-3.6V, 52 GPIO, LQFP-64; ki_fp_filters: LQFP*10x10mm*P0.5mm*; Footprint: Package_QFP:LQFP-64_10x10mm_P0.5mm; Supplier: http://www.st.com/st-web-ui/static/active/en/resource/technical/document/datasheet/DM00257211.pdf
footprint LQFP-64_10x10mm_P0.5mm
pins: 1 VBAT (power), 2 PC13 (io), 3 PC14 (io), 4 PC15 (io), 5 PH0 (in), 6 PH1 (in), 7 NRST (in), 8 PC0 (io), 9 PC1 (io), 10 PC2 (io), 11 PC3 (io), 12 VSSA (power), 13 VDDA (power), 14 PA0 (io), 15 PA1 (io), 16 PA2 (io), 17 PA3 (io), 18 VSS (power), 19 VDD (power), 20 PA4 (io), 21 PA5 (io), 22 PA6 (io), 23 PA7 (io), 24 PC4 (io), 25 PC5 (io), 26 PB0 (io), 27 PB1 (io), 28 PB2 (io), 29 PB10 (io), 30 PB11 (io), 31 VSS (power), 32 VDD (power), 33 PB12 (io), 34 PB13 (io), 35 PB14 (io), 36 PB15 (io), 37 PC6 (io), 38 PC7 (io), 39 PC8 (io), 40 PC9 (io), 41 PA8 (io), 42 PA9 (io), 43 PA10 (io), 44 PA11 (io), 45 PA12 (io), 46 PA13 (io), 47 VSS (power), 48 VDD (power), 49 PA14 (io), 50 PA15 (io), 51 PC10 (io), 52 PC11 (io), 53 PC12 (io), 54 PD2 (io), 55 PB3 (io), 56 PB4 (io), 57 PB5 (io), 58 PB6 (io), 59 PB7 (io), 60 PH3 (io), 61 PB8 (io), 62 PB9 (io), 63 VSS (power), 64 VDD (power)

## STM32L431RCYx
designator *  value STM32L431RCYx
ki_keywords: ARM Cortex-M4 STM32L4 STM32L4x1; ki_description: ARM Cortex-M4 MCU, 256KB flash, 64KB RAM, 80MHz, 1.71-3.6V, 52 GPIO, WLCSP-64; ki_fp_filters: ST_WLCSP*Die435*; Footprint: Package_CSP:ST_WLCSP-64_Die435; Supplier: http://www.st.com/st-web-ui/static/active/en/resource/technical/document/datasheet/DM00257211.pdf
footprint ST_WLCSP-64_Die435
pins: A1 VDD (power), A2 PA15 (io), A3 PC12 (io), A4 PD2 (io), A5 PB3 (io), A6 PB7 (io), A7 VSS (power), A8 VDD (power), B1 VSS (power), B2 PA14 (io), B3 PC11 (io), B4 PB4 (io), B5 PB6 (io), B6 PB9 (io), B7 VBAT (power), B8 PC13 (io), C1 PA12 (io), C2 PA13 (io), C3 PC10 (io), C4 PB5 (io), C5 PH3 (io), C6 PB8 (io), C7 PC15 (io), C8 PC14 (io), D1 PA9 (io), D2 PA10 (io), D3 PA11 (io), D4 PC4 (io), D5 PC0 (io), D6 NRST (in), D7 PH1 (in), D8 PH0 (in), E1 PC7 (io), E2 PC9 (io), E3 PA8 (io), E4 PC5 (io), E5 PA4 (io), E6 PC3 (io), E7 PC2 (io), E8 PC1 (io), F1 PC6 (io), F2 PB15 (io), F3 PC8 (io), F4 PB0 (io), F5 PA5 (io), F6 PA2 (io), F7 PA0 (io), F8 VSSA (power), G1 PB14 (io), G2 PB13 (io), G3 PB12 (io), G4 PB2 (io), G5 PA6 (io), G6 PA3 (io), G7 PA1 (io), G8 VDDA (power), H1 VDD (power), H2 VSS (power), H3 PB11 (io), H4 PB10 (io), H5 PB1 (io), H6 PA7 (io), H7 VDD (power), H8 VSS (power)

## STM32L431VCIx
designator *  value STM32L431VCIx
ki_keywords: ARM Cortex-M4 STM32L4 STM32L4x1; ki_description: ARM Cortex-M4 MCU, 256KB flash, 64KB RAM, 80MHz, 1.71-3.6V, 83 GPIO, UFBGA-100; ki_fp_filters: UFBGA*7x7mm*Layout12x12*P0.5mm*; Footprint: Package_BGA:UFBGA-100_7x7mm_Layout12x12_P0.5mm; Supplier: http://www.st.com/st-web-ui/static/active/en/resource/technical/document/datasheet/DM00257211.pdf
footprint UFBGA-100_7x7mm_Layout12x12_P0.5mm
pins: A1 PE3 (io), A2 PE1 (io), A3 PB8 (io), A4 PH3 (io), A5 PD7 (io), A6 PD5 (io), A7 PB4 (io), A8 PB3 (io), A9 PA15 (io), A10 PA14 (io), A11 PA13 (io), A12 PA12 (io), B1 PE4 (io), B2 PE2 (io), B3 PB9 (io), B4 PB7 (io), B5 PB6 (io), B6 PD6 (io), B7 PD4 (io), B8 PD3 (io), B9 PD1 (io), B10 PC12 (io), B11 PC10 (io), B12 PA11 (io), C1 PC13 (io), C2 PE5 (io), C3 PE0 (io), C4 VDD (power), C5 PB5 (io), C8 PD2 (io), C9 PD0 (io), C10 PC11 (io), C11 VDD (power), C12 PA10 (io), D1 PC14 (io), D2 PE6 (io), D3 VSS (power), D10 PA9 (io), D11 PA8 (io), D12 PC9 (io), E1 PC15 (io), E2 VBAT (power), E3 VSS (power), E10 PC8 (io), E11 PC7 (io), E12 PC6 (io), F1 PH0 (in), F2 VSS (power), F11 VSS (power), F12 VSS (power), G1 PH1 (in), G2 VDD (power), G11 VDD (power), G12 VDD (power), H1 PC0 (io), H2 NRST (in), H3 VDD (power), H10 PD15 (io), H11 PD14 (io), H12 PD13 (io), J1 VSSA (power), J2 PC1 (io), J3 PC2 (io), J10 PD12 (io), J11 PD11 (io), J12 PD10 (io), K1 VREF- (power), K2 PC3 (io), K3 PA2 (io), K4 PA5 (io), K5 PC4 (io), K8 PD9 (io), K9 PD8 (io), K10 PB15 (io), K11 PB14 (io), K12 PB13 (io), L1 VREF+ (io), L2 PA0 (io), L3 PA3 (io), L4 PA6 (io), L5 PC5 (io), L6 PB2 (io), L7 PE8 (io), L8 PE10 (io), L9 PE12 (io), L10 PB10 (io), L11 PB11 (io), L12 PB12 (io), M1 VDDA (power), M2 PA1 (io), M3 PA4 (io), M4 PA7 (io), M5 PB0 (io), M6 PB1 (io), M7 PE7 (io), M8 PE9 (io), M9 PE11 (io), M10 PE13 (io), M11 PE14 (io), M12 PE15 (io)

## STM32L431VCTx
designator *  value STM32L431VCTx
ki_keywords: ARM Cortex-M4 STM32L4 STM32L4x1; ki_description: ARM Cortex-M4 MCU, 256KB flash, 64KB RAM, 80MHz, 1.71-3.6V, 83 GPIO, LQFP-100; ki_fp_filters: LQFP*14x14mm*P0.5mm*; Footprint: Package_QFP:LQFP-100_14x14mm_P0.5mm; Supplier: http://www.st.com/st-web-ui/static/active/en/resource/technical/document/datasheet/DM00257211.pdf
footprint LQFP-100_14x14mm_P0.5mm
pins: 1 PE2 (io), 2 PE3 (io), 3 PE4 (io), 4 PE5 (io), 5 PE6 (io), 6 VBAT (power), 7 PC13 (io), 8 PC14 (io), 9 PC15 (io), 10 VSS (power), 11 VDD (power), 12 PH0 (in), 13 PH1 (in), 14 NRST (in), 15 PC0 (io), 16 PC1 (io), 17 PC2 (io), 18 PC3 (io), 19 VSSA (power), 20 VREF- (power), 21 VREF+ (io), 22 VDDA (power), 23 PA0 (io), 24 PA1 (io), 25 PA2 (io), 26 PA3 (io), 27 VSS (power), 28 VDD (power), 29 PA4 (io), 30 PA5 (io), 31 PA6 (io), 32 PA7 (io), 33 PC4 (io), 34 PC5 (io), 35 PB0 (io), 36 PB1 (io), 37 PB2 (io), 38 PE7 (io), 39 PE8 (io), 40 PE9 (io), 41 PE10 (io), 42 PE11 (io), 43 PE12 (io), 44 PE13 (io), 45 PE14 (io), 46 PE15 (io), 47 PB10 (io), 48 PB11 (io), 49 VSS (power), 50 VDD (power), 51 PB12 (io), 52 PB13 (io), 53 PB14 (io), 54 PB15 (io), 55 PD8 (io), 56 PD9 (io), 57 PD10 (io), 58 PD11 (io), 59 PD12 (io), 60 PD13 (io), 61 PD14 (io), 62 PD15 (io), 63 PC6 (io), 64 PC7 (io), 65 PC8 (io), 66 PC9 (io), 67 PA8 (io), 68 PA9 (io), 69 PA10 (io), 70 PA11 (io), 71 PA12 (io), 72 PA13 (io), 73 VDD (power), 74 VSS (power), 75 VDD (power), 76 PA14 (io), 77 PA15 (io), 78 PC10 (io), 79 PC11 (io), 80 PC12 (io), 81 PD0 (io), 82 PD1 (io), 83 PD2 (io), 84 PD3 (io), 85 PD4 (io), 86 PD5 (io), 87 PD6 (io), 88 PD7 (io), 89 PB3 (io), 90 PB4 (io), 91 PB5 (io), 92 PB6 (io), 93 PB7 (io), 94 PH3 (io), 95 PB8 (io), 96 PB9 (io), 97 PE0 (io), 98 PE1 (io), 99 VSS (power), 100 VDD (power)

## STM32L432KBUx
designator *  value STM32L432KBUx
ki_keywords: ARM Cortex-M4 STM32L4 STM32L4x2; ki_description: ARM Cortex-M4 MCU, 128KB flash, 64KB RAM, 80MHz, 1.71-3.6V, 26 GPIO, UFQFPN-32; ki_fp_filters: QFN*1EP*5x5mm*P0.5mm*; Footprint: Package_DFN_QFN:QFN-32-1EP_5x5mm_P0.5mm_EP3.45x3.45mm; Supplier: http://www.st.com/st-web-ui/static/active/en/resource/technical/document/datasheet/DM00257205.pdf
footprint QFN-32-1EP_5x5mm_P0.5mm_EP3.45x3.45mm
pins: 1 VDD (power), 2 PC14 (io), 3 PC15 (io), 4 NRST (in), 5 VDDA (power), 6 PA0 (io), 7 PA1 (io), 8 PA2 (io), 9 PA3 (io), 10 PA4 (io), 11 PA5 (io), 12 PA6 (io), 13 PA7 (io), 14 PB0 (io), 15 PB1 (io), 16 VSS (power), 17 VDD (power), 18 PA8 (io), 19 PA9 (io), 20 PA10 (io), 21 PA11 (io), 22 PA12 (io), 23 PA13 (io), 24 PA14 (io), 25 PA15 (io), 26 PB3 (io), 27 PB4 (io), 28 PB5 (io), 29 PB6 (io), 30 PB7 (io), 31 PH3 (io), 32 VSS (power), 33 VSS (power)

## STM32L432KCUx
designator *  value STM32L432KCUx
ki_keywords: ARM Cortex-M4 STM32L4 STM32L4x2; ki_description: ARM Cortex-M4 MCU, 256KB flash, 64KB RAM, 80MHz, 1.71-3.6V, 26 GPIO, UFQFPN-32; ki_fp_filters: QFN*1EP*5x5mm*P0.5mm*; Footprint: Package_DFN_QFN:QFN-32-1EP_5x5mm_P0.5mm_EP3.45x3.45mm; Supplier: http://www.st.com/st-web-ui/static/active/en/resource/technical/document/datasheet/DM00257205.pdf
footprint QFN-32-1EP_5x5mm_P0.5mm_EP3.45x3.45mm
pins: 1 VDD (power), 2 PC14 (io), 3 PC15 (io), 4 NRST (in), 5 VDDA (power), 6 PA0 (io), 7 PA1 (io), 8 PA2 (io), 9 PA3 (io), 10 PA4 (io), 11 PA5 (io), 12 PA6 (io), 13 PA7 (io), 14 PB0 (io), 15 PB1 (io), 16 VSS (power), 17 VDD (power), 18 PA8 (io), 19 PA9 (io), 20 PA10 (io), 21 PA11 (io), 22 PA12 (io), 23 PA13 (io), 24 PA14 (io), 25 PA15 (io), 26 PB3 (io), 27 PB4 (io), 28 PB5 (io), 29 PB6 (io), 30 PB7 (io), 31 PH3 (io), 32 VSS (power), 33 VSS (power)

## STM32L433CBTx
designator *  value STM32L433CBTx
ki_keywords: ARM Cortex-M4 STM32L4 STM32L4x3; ki_description: ARM Cortex-M4 MCU, 128KB flash, 64KB RAM, 80MHz, 1.71-3.6V, 38 GPIO, LQFP-48; ki_fp_filters: LQFP*7x7mm*P0.5mm*; Footprint: Package_QFP:LQFP-48_7x7mm_P0.5mm; Supplier: http://www.st.com/st-web-ui/static/active/en/resource/technical/document/datasheet/DM00257192.pdf
footprint LQFP-48_7x7mm_P0.5mm
pins: 1 VBAT (power), 2 PC13 (io), 3 PC14 (io), 4 PC15 (io), 5 PH0 (in), 6 PH1 (in), 7 NRST (in), 8 VSSA (power), 9 VDDA (power), 10 PA0 (io), 11 PA1 (io), 12 PA2 (io), 13 PA3 (io), 14 PA4 (io), 15 PA5 (io), 16 PA6 (io), 17 PA7 (io), 18 PB0 (io), 19 PB1 (io), 20 PB2 (io), 21 PB10 (io), 22 PB11 (io), 23 VSS (power), 24 VDD (power), 25 PB12 (io), 26 PB13 (io), 27 PB14 (io), 28 PB15 (io), 29 PA8 (io), 30 PA9 (io), 31 PA10 (io), 32 PA11 (io), 33 PA12 (io), 34 PA13 (io), 35 VSS (power), 36 VDDUSB (power), 37 PA14 (io), 38 PA15 (io), 39 PB3 (io), 40 PB4 (io), 41 PB5 (io), 42 PB6 (io), 43 PB7 (io), 44 PH3 (io), 45 PB8 (io), 46 PB9 (io), 47 VSS (power), 48 VDD (power)

## STM32L433CBUx
designator *  value STM32L433CBUx
ki_keywords: ARM Cortex-M4 STM32L4 STM32L4x3; ki_description: ARM Cortex-M4 MCU, 128KB flash, 64KB RAM, 80MHz, 1.71-3.6V, 38 GPIO, UFQFPN-48; ki_fp_filters: QFN*1EP*7x7mm*P0.5mm*; Footprint: Package_DFN_QFN:QFN-48-1EP_7x7mm_P0.5mm_EP5.6x5.6mm; Supplier: http://www.st.com/st-web-ui/static/active/en/resource/technical/document/datasheet/DM00257192.pdf
footprint QFN-48-1EP_7x7mm_P0.5mm_EP5.6x5.6mm
pins: 1 VBAT (power), 2 PC13 (io), 3 PC14 (io), 4 PC15 (io), 5 PH0 (in), 6 PH1 (in), 7 NRST (in), 8 VSSA (power), 9 VDDA (power), 10 PA0 (io), 11 PA1 (io), 12 PA2 (io), 13 PA3 (io), 14 PA4 (io), 15 PA5 (io), 16 PA6 (io), 17 PA7 (io), 18 PB0 (io), 19 PB1 (io), 20 PB2 (io), 21 PB10 (io), 22 PB11 (io), 23 VSS (power), 24 VDD (power), 25 PB12 (io), 26 PB13 (io), 27 PB14 (io), 28 PB15 (io), 29 PA8 (io), 30 PA9 (io), 31 PA10 (io), 32 PA11 (io), 33 PA12 (io), 34 PA13 (io), 35 VSS (power), 36 VDDUSB (power), 37 PA14 (io), 38 PA15 (io), 39 PB3 (io), 40 PB4 (io), 41 PB5 (io), 42 PB6 (io), 43 PB7 (io), 44 PH3 (io), 45 PB8 (io), 46 PB9 (io), 47 VSS (power), 48 VDD (power), 49 VSS (power)

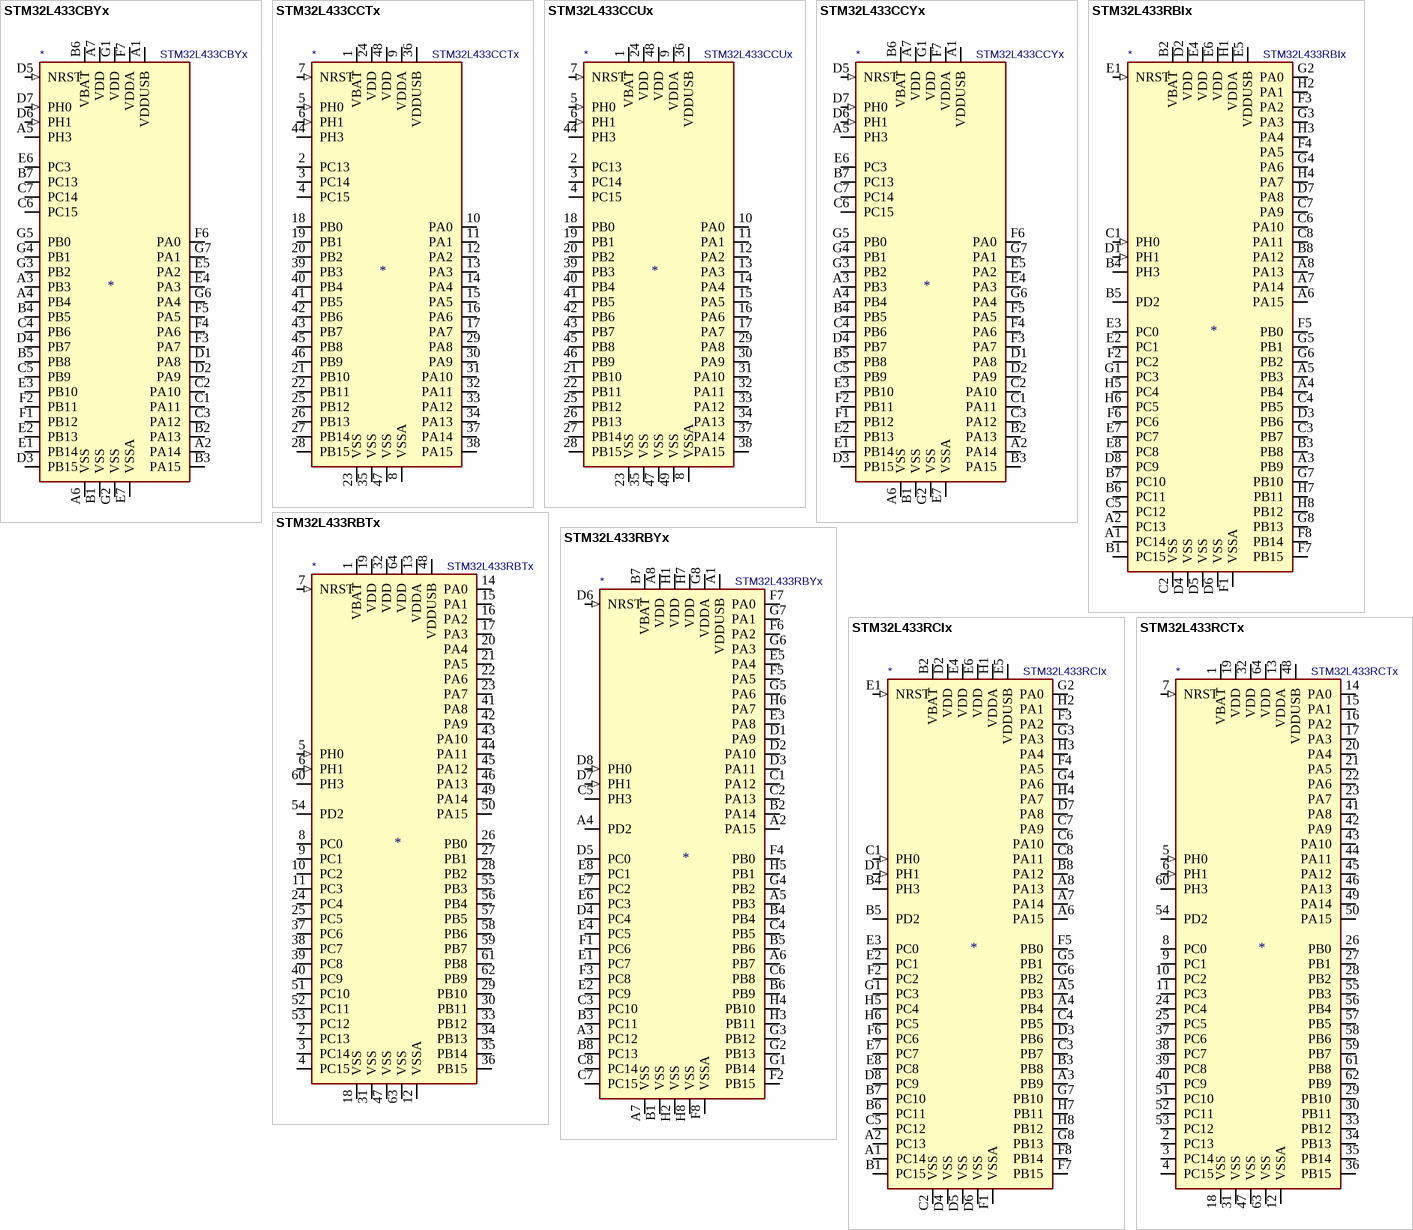
[diagram p3: symbols STM32L433CBYx to STM32L433RCTx]

## STM32L433CBYx
designator *  value STM32L433CBYx
ki_keywords: ARM Cortex-M4 STM32L4 STM32L4x3; ki_description: ARM Cortex-M4 MCU, 128KB flash, 64KB RAM, 80MHz, 1.71-3.6V, 39 GPIO, WLCSP-49; ki_fp_filters: ST_WLCSP*Die435*; Footprint: Package_CSP:ST_WLCSP-49_Die435; Supplier: http://www.st.com/st-web-ui/static/active/en/resource/technical/document/datasheet/DM00257192.pdf
footprint ST_WLCSP-49_Die435
pins: A1 VDDUSB (power), A2 PA14 (io), A3 PB3 (io), A4 PB4 (io), A5 PH3 (io), A6 VSS (power), A7 VDD (power), B1 VSS (power), B2 PA13 (io), B3 PA15 (io), B4 PB5 (io), B5 PB8 (io), B6 VBAT (power), B7 PC13 (io), C1 PA11 (io), C2 PA10 (io), C3 PA12 (io), C4 PB6 (io), C5 PB9 (io), C6 PC15 (io), C7 PC14 (io), D1 PA8 (io), D2 PA9 (io), D3 PB15 (io), D4 PB7 (io), D5 NRST (in), D6 PH1 (in), D7 PH0 (in), E1 PB14 (io), E2 PB13 (io), E3 PB10 (io), E4 PA3 (io), E5 PA2 (io), E6 PC3 (io), E7 VSSA (power), F1 PB12 (io), F2 PB11 (io), F3 PA7 (io), F4 PA6 (io), F5 PA5 (io), F6 PA0 (io), F7 VDDA (power), G1 VDD (power), G2 VSS (power), G3 PB2 (io), G4 PB1 (io), G5 PB0 (io), G6 PA4 (io), G7 PA1 (io)

## STM32L433CCTx
designator *  value STM32L433CCTx
ki_keywords: ARM Cortex-M4 STM32L4 STM32L4x3; ki_description: ARM Cortex-M4 MCU, 256KB flash, 64KB RAM, 80MHz, 1.71-3.6V, 38 GPIO, LQFP-48; ki_fp_filters: LQFP*7x7mm*P0.5mm*; Footprint: Package_QFP:LQFP-48_7x7mm_P0.5mm; Supplier: http://www.st.com/st-web-ui/static/active/en/resource/technical/document/datasheet/DM00257192.pdf
footprint LQFP-48_7x7mm_P0.5mm
pins: 1 VBAT (power), 2 PC13 (io), 3 PC14 (io), 4 PC15 (io), 5 PH0 (in), 6 PH1 (in), 7 NRST (in), 8 VSSA (power), 9 VDDA (power), 10 PA0 (io), 11 PA1 (io), 12 PA2 (io), 13 PA3 (io), 14 PA4 (io), 15 PA5 (io), 16 PA6 (io), 17 PA7 (io), 18 PB0 (io), 19 PB1 (io), 20 PB2 (io), 21 PB10 (io), 22 PB11 (io), 23 VSS (power), 24 VDD (power), 25 PB12 (io), 26 PB13 (io), 27 PB14 (io), 28 PB15 (io), 29 PA8 (io), 30 PA9 (io), 31 PA10 (io), 32 PA11 (io), 33 PA12 (io), 34 PA13 (io), 35 VSS (power), 36 VDDUSB (power), 37 PA14 (io), 38 PA15 (io), 39 PB3 (io), 40 PB4 (io), 41 PB5 (io), 42 PB6 (io), 43 PB7 (io), 44 PH3 (io), 45 PB8 (io), 46 PB9 (io), 47 VSS (power), 48 VDD (power)

## STM32L433CCUx
designator *  value STM32L433CCUx
ki_keywords: ARM Cortex-M4 STM32L4 STM32L4x3; ki_description: ARM Cortex-M4 MCU, 256KB flash, 64KB RAM, 80MHz, 1.71-3.6V, 38 GPIO, UFQFPN-48; ki_fp_filters: QFN*1EP*7x7mm*P0.5mm*; Footprint: Package_DFN_QFN:QFN-48-1EP_7x7mm_P0.5mm_EP5.6x5.6mm; Supplier: http://www.st.com/st-web-ui/static/active/en/resource/technical/document/datasheet/DM00257192.pdf
footprint QFN-48-1EP_7x7mm_P0.5mm_EP5.6x5.6mm
pins: 1 VBAT (power), 2 PC13 (io), 3 PC14 (io), 4 PC15 (io), 5 PH0 (in), 6 PH1 (in), 7 NRST (in), 8 VSSA (power), 9 VDDA (power), 10 PA0 (io), 11 PA1 (io), 12 PA2 (io), 13 PA3 (io), 14 PA4 (io), 15 PA5 (io), 16 PA6 (io), 17 PA7 (io), 18 PB0 (io), 19 PB1 (io), 20 PB2 (io), 21 PB10 (io), 22 PB11 (io), 23 VSS (power), 24 VDD (power), 25 PB12 (io), 26 PB13 (io), 27 PB14 (io), 28 PB15 (io), 29 PA8 (io), 30 PA9 (io), 31 PA10 (io), 32 PA11 (io), 33 PA12 (io), 34 PA13 (io), 35 VSS (power), 36 VDDUSB (power), 37 PA14 (io), 38 PA15 (io), 39 PB3 (io), 40 PB4 (io), 41 PB5 (io), 42 PB6 (io), 43 PB7 (io), 44 PH3 (io), 45 PB8 (io), 46 PB9 (io), 47 VSS (power), 48 VDD (power), 49 VSS (power)

## STM32L433CCYx
designator *  value STM32L433CCYx
ki_keywords: ARM Cortex-M4 STM32L4 STM32L4x3; ki_description: ARM Cortex-M4 MCU, 256KB flash, 64KB RAM, 80MHz, 1.71-3.6V, 39 GPIO, WLCSP-49; ki_fp_filters: ST_WLCSP*Die435*; Footprint: Package_CSP:ST_WLCSP-49_Die435; Supplier: http://www.st.com/st-web-ui/static/active/en/resource/technical/document/datasheet/DM00257192.pdf
footprint ST_WLCSP-49_Die435
pins: A1 VDDUSB (power), A2 PA14 (io), A3 PB3 (io), A4 PB4 (io), A5 PH3 (io), A6 VSS (power), A7 VDD (power), B1 VSS (power), B2 PA13 (io), B3 PA15 (io), B4 PB5 (io), B5 PB8 (io), B6 VBAT (power), B7 PC13 (io), C1 PA11 (io), C2 PA10 (io), C3 PA12 (io), C4 PB6 (io), C5 PB9 (io), C6 PC15 (io), C7 PC14 (io), D1 PA8 (io), D2 PA9 (io), D3 PB15 (io), D4 PB7 (io), D5 NRST (in), D6 PH1 (in), D7 PH0 (in), E1 PB14 (io), E2 PB13 (io), E3 PB10 (io), E4 PA3 (io), E5 PA2 (io), E6 PC3 (io), E7 VSSA (power), F1 PB12 (io), F2 PB11 (io), F3 PA7 (io), F4 PA6 (io), F5 PA5 (io), F6 PA0 (io), F7 VDDA (power), G1 VDD (power), G2 VSS (power), G3 PB2 (io), G4 PB1 (io), G5 PB0 (io), G6 PA4 (io), G7 PA1 (io)

## STM32L433RBIx
designator *  value STM32L433RBIx
ki_keywords: ARM Cortex-M4 STM32L4 STM32L4x3; ki_description: ARM Cortex-M4 MCU, 128KB flash, 64KB RAM, 80MHz, 1.71-3.6V, 52 GPIO, UFBGA-64; ki_fp_filters: UFBGA*5x5mm*Layout8x8*P0.5mm*; Footprint: Package_BGA:UFBGA-64_5x5mm_Layout8x8_P0.5mm; Supplier: http://www.st.com/st-web-ui/static/active/en/resource/technical/document/datasheet/DM00257192.pdf
footprint UFBGA-64_5x5mm_Layout8x8_P0.5mm
pins: A1 PC14 (io), A2 PC13 (io), A3 PB9 (io), A4 PB4 (io), A5 PB3 (io), A6 PA15 (io), A7 PA14 (io), A8 PA13 (io), B1 PC15 (io), B2 VBAT (power), B3 PB8 (io), B4 PH3 (io), B5 PD2 (io), B6 PC11 (io), B7 PC10 (io), B8 PA12 (io), C1 PH0 (in), C2 VSS (power), C3 PB7 (io), C4 PB5 (io), C5 PC12 (io), C6 PA10 (io), C7 PA9 (io), C8 PA11 (io), D1 PH1 (in), D2 VDD (power), D3 PB6 (io), D4 VSS (power), D5 VSS (power), D6 VSS (power), D7 PA8 (io), D8 PC9 (io), E1 NRST (in), E2 PC1 (io), E3 PC0 (io), E4 VDD (power), E5 VDDUSB (power), E6 VDD (power), E7 PC7 (io), E8 PC8 (io), F1 VSSA (power), F2 PC2 (io), F3 PA2 (io), F4 PA5 (io), F5 PB0 (io), F6 PC6 (io), F7 PB15 (io), F8 PB14 (io), G1 PC3 (io), G2 PA0 (io), G3 PA3 (io), G4 PA6 (io), G5 PB1 (io), G6 PB2 (io), G7 PB10 (io), G8 PB13 (io), H1 VDDA (power), H2 PA1 (io), H3 PA4 (io), H4 PA7 (io), H5 PC4 (io), H6 PC5 (io), H7 PB11 (io), H8 PB12 (io)

## STM32L433RBTx
designator *  value STM32L433RBTx
ki_keywords: ARM Cortex-M4 STM32L4 STM32L4x3; ki_description: ARM Cortex-M4 MCU, 128KB flash, 64KB RAM, 80MHz, 1.71-3.6V, 52 GPIO, LQFP-64; ki_fp_filters: LQFP*10x10mm*P0.5mm*; Footprint: Package_QFP:LQFP-64_10x10mm_P0.5mm; Supplier: http://www.st.com/st-web-ui/static/active/en/resource/technical/document/datasheet/DM00257192.pdf
footprint LQFP-64_10x10mm_P0.5mm
pins: 1 VBAT (power), 2 PC13 (io), 3 PC14 (io), 4 PC15 (io), 5 PH0 (in), 6 PH1 (in), 7 NRST (in), 8 PC0 (io), 9 PC1 (io), 10 PC2 (io), 11 PC3 (io), 12 VSSA (power), 13 VDDA (power), 14 PA0 (io), 15 PA1 (io), 16 PA2 (io), 17 PA3 (io), 18 VSS (power), 19 VDD (power), 20 PA4 (io), 21 PA5 (io), 22 PA6 (io), 23 PA7 (io), 24 PC4 (io), 25 PC5 (io), 26 PB0 (io), 27 PB1 (io), 28 PB2 (io), 29 PB10 (io), 30 PB11 (io), 31 VSS (power), 32 VDD (power), 33 PB12 (io), 34 PB13 (io), 35 PB14 (io), 36 PB15 (io), 37 PC6 (io), 38 PC7 (io), 39 PC8 (io), 40 PC9 (io), 41 PA8 (io), 42 PA9 (io), 43 PA10 (io), 44 PA11 (io), 45 PA12 (io), 46 PA13 (io), 47 VSS (power), 48 VDDUSB (power), 49 PA14 (io), 50 PA15 (io), 51 PC10 (io), 52 PC11 (io), 53 PC12 (io), 54 PD2 (io), 55 PB3 (io), 56 PB4 (io), 57 PB5 (io), 58 PB6 (io), 59 PB7 (io), 60 PH3 (io), 61 PB8 (io), 62 PB9 (io), 63 VSS (power), 64 VDD (power)

## STM32L433RBYx
designator *  value STM32L433RBYx
ki_keywords: ARM Cortex-M4 STM32L4 STM32L4x3; ki_description: ARM Cortex-M4 MCU, 128KB flash, 64KB RAM, 80MHz, 1.71-3.6V, 52 GPIO, WLCSP-64; ki_fp_filters: ST_WLCSP*Die435*; Footprint: Package_CSP:ST_WLCSP-64_Die435; Supplier: http://www.st.com/st-web-ui/static/active/en/resource/technical/document/datasheet/DM00257192.pdf
footprint ST_WLCSP-64_Die435
pins: A1 VDDUSB (power), A2 PA15 (io), A3 PC12 (io), A4 PD2 (io), A5 PB3 (io), A6 PB7 (io), A7 VSS (power), A8 VDD (power), B1 VSS (power), B2 PA14 (io), B3 PC11 (io), B4 PB4 (io), B5 PB6 (io), B6 PB9 (io), B7 VBAT (power), B8 PC13 (io), C1 PA12 (io), C2 PA13 (io), C3 PC10 (io), C4 PB5 (io), C5 PH3 (io), C6 PB8 (io), C7 PC15 (io), C8 PC14 (io), D1 PA9 (io), D2 PA10 (io), D3 PA11 (io), D4 PC4 (io), D5 PC0 (io), D6 NRST (in), D7 PH1 (in), D8 PH0 (in), E1 PC7 (io), E2 PC9 (io), E3 PA8 (io), E4 PC5 (io), E5 PA4 (io), E6 PC3 (io), E7 PC2 (io), E8 PC1 (io), F1 PC6 (io), F2 PB15 (io), F3 PC8 (io), F4 PB0 (io), F5 PA5 (io), F6 PA2 (io), F7 PA0 (io), F8 VSSA (power), G1 PB14 (io), G2 PB13 (io), G3 PB12 (io), G4 PB2 (io), G5 PA6 (io), G6 PA3 (io), G7 PA1 (io), G8 VDDA (power), H1 VDD (power), H2 VSS (power), H3 PB11 (io), H4 PB10 (io), H5 PB1 (io), H6 PA7 (io), H7 VDD (power), H8 VSS (power)

## STM32L433RCIx
designator *  value STM32L433RCIx
ki_keywords: ARM Cortex-M4 STM32L4 STM32L4x3; ki_description: ARM Cortex-M4 MCU, 256KB flash, 64KB RAM, 80MHz, 1.71-3.6V, 52 GPIO, UFBGA-64; ki_fp_filters: UFBGA*5x5mm*Layout8x8*P0.5mm*; Footprint: Package_BGA:UFBGA-64_5x5mm_Layout8x8_P0.5mm; Supplier: http://www.st.com/st-web-ui/static/active/en/resource/technical/document/datasheet/DM00257192.pdf
footprint UFBGA-64_5x5mm_Layout8x8_P0.5mm
pins: A1 PC14 (io), A2 PC13 (io), A3 PB9 (io), A4 PB4 (io), A5 PB3 (io), A6 PA15 (io), A7 PA14 (io), A8 PA13 (io), B1 PC15 (io), B2 VBAT (power), B3 PB8 (io), B4 PH3 (io), B5 PD2 (io), B6 PC11 (io), B7 PC10 (io), B8 PA12 (io), C1 PH0 (in), C2 VSS (power), C3 PB7 (io), C4 PB5 (io), C5 PC12 (io), C6 PA10 (io), C7 PA9 (io), C8 PA11 (io), D1 PH1 (in), D2 VDD (power), D3 PB6 (io), D4 VSS (power), D5 VSS (power), D6 VSS (power), D7 PA8 (io), D8 PC9 (io), E1 NRST (in), E2 PC1 (io), E3 PC0 (io), E4 VDD (power), E5 VDDUSB (power), E6 VDD (power), E7 PC7 (io), E8 PC8 (io), F1 VSSA (power), F2 PC2 (io), F3 PA2 (io), F4 PA5 (io), F5 PB0 (io), F6 PC6 (io), F7 PB15 (io), F8 PB14 (io), G1 PC3 (io), G2 PA0 (io), G3 PA3 (io), G4 PA6 (io), G5 PB1 (io), G6 PB2 (io), G7 PB10 (io), G8 PB13 (io), H1 VDDA (power), H2 PA1 (io), H3 PA4 (io), H4 PA7 (io), H5 PC4 (io), H6 PC5 (io), H7 PB11 (io), H8 PB12 (io)

## STM32L433RCTx
designator *  value STM32L433RCTx
ki_keywords: ARM Cortex-M4 STM32L4 STM32L4x3; ki_description: ARM Cortex-M4 MCU, 256KB flash, 64KB RAM, 80MHz, 1.71-3.6V, 52 GPIO, LQFP-64; ki_fp_filters: LQFP*10x10mm*P0.5mm*; Footprint: Package_QFP:LQFP-64_10x10mm_P0.5mm; Supplier: http://www.st.com/st-web-ui/static/active/en/resource/technical/document/datasheet/DM00257192.pdf
footprint LQFP-64_10x10mm_P0.5mm
pins: 1 VBAT (power), 2 PC13 (io), 3 PC14 (io), 4 PC15 (io), 5 PH0 (in), 6 PH1 (in), 7 NRST (in), 8 PC0 (io), 9 PC1 (io), 10 PC2 (io), 11 PC3 (io), 12 VSSA (power), 13 VDDA (power), 14 PA0 (io), 15 PA1 (io), 16 PA2 (io), 17 PA3 (io), 18 VSS (power), 19 VDD (power), 20 PA4 (io), 21 PA5 (io), 22 PA6 (io), 23 PA7 (io), 24 PC4 (io), 25 PC5 (io), 26 PB0 (io), 27 PB1 (io), 28 PB2 (io), 29 PB10 (io), 30 PB11 (io), 31 VSS (power), 32 VDD (power), 33 PB12 (io), 34 PB13 (io), 35 PB14 (io), 36 PB15 (io), 37 PC6 (io), 38 PC7 (io), 39 PC8 (io), 40 PC9 (io), 41 PA8 (io), 42 PA9 (io), 43 PA10 (io), 44 PA11 (io), 45 PA12 (io), 46 PA13 (io), 47 VSS (power), 48 VDDUSB (power), 49 PA14 (io), 50 PA15 (io), 51 PC10 (io), 52 PC11 (io), 53 PC12 (io), 54 PD2 (io), 55 PB3 (io), 56 PB4 (io), 57 PB5 (io), 58 PB6 (io), 59 PB7 (io), 60 PH3 (io), 61 PB8 (io), 62 PB9 (io), 63 VSS (power), 64 VDD (power)

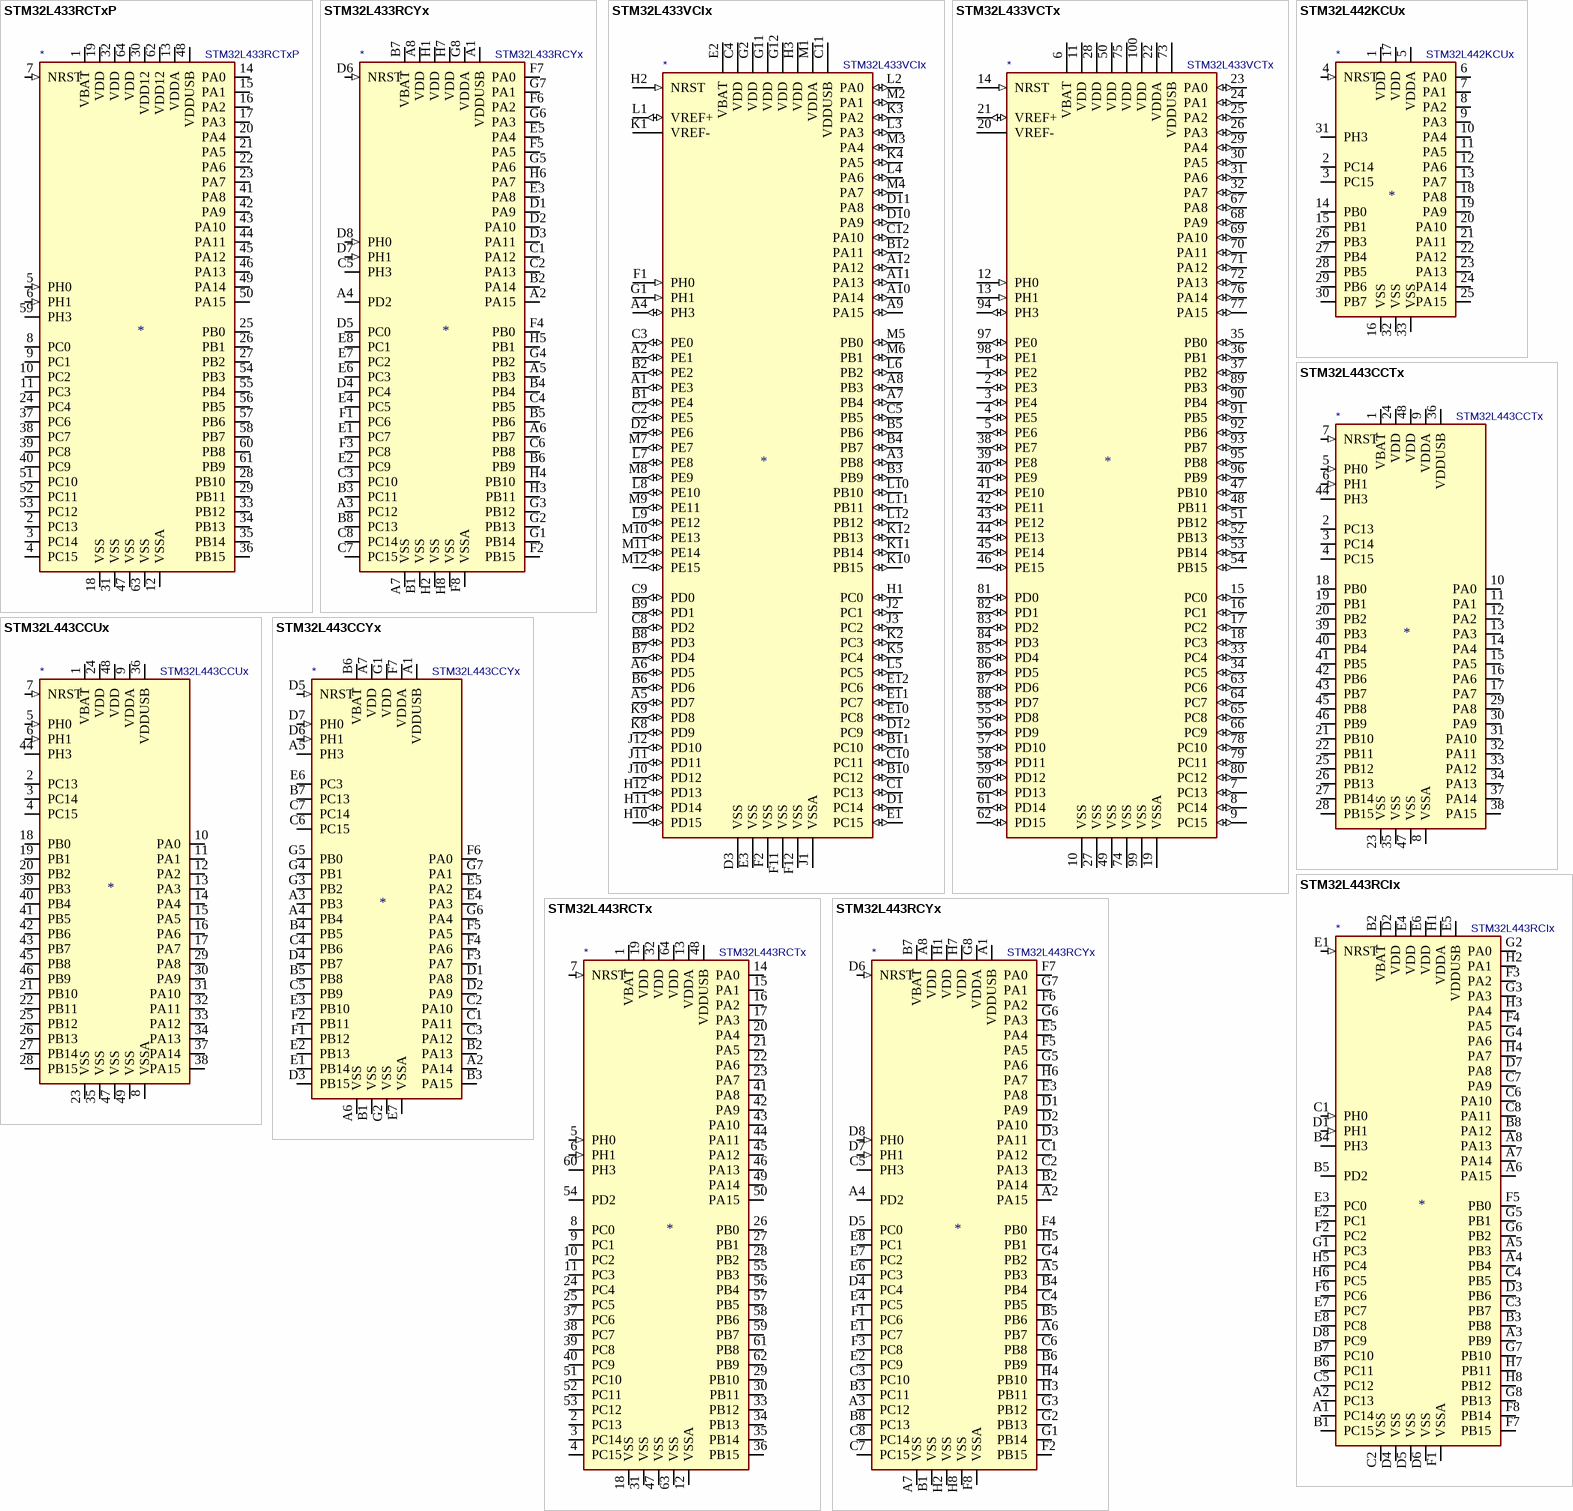
[diagram p4: symbols STM32L433RCTxP to STM32L443RCYx]

## STM32L433RCTxP
designator *  value STM32L433RCTxP
ki_keywords: ARM Cortex-M4 STM32L4 STM32L4x3; ki_description: ARM Cortex-M4 MCU, 256KB flash, 64KB RAM, 80MHz, 1.71-3.6V, 50 GPIO, LQFP-64; ki_fp_filters: LQFP*10x10mm*P0.5mm*; Footprint: Package_QFP:LQFP-64_10x10mm_P0.5mm; Supplier: http://www.st.com/st-web-ui/static/active/en/resource/technical/document/datasheet/DM00257192.pdf
footprint LQFP-64_10x10mm_P0.5mm
pins: 1 VBAT (power), 2 PC13 (io), 3 PC14 (io), 4 PC15 (io), 5 PH0 (in), 6 PH1 (in), 7 NRST (in), 8 PC0 (io), 9 PC1 (io), 10 PC2 (io), 11 PC3 (io), 12 VSSA (power), 13 VDDA (power), 14 PA0 (io), 15 PA1 (io), 16 PA2 (io), 17 PA3 (io), 18 VSS (power), 19 VDD (power), 20 PA4 (io), 21 PA5 (io), 22 PA6 (io), 23 PA7 (io), 24 PC4 (io), 25 PB0 (io), 26 PB1 (io), 27 PB2 (io), 28 PB10 (io), 29 PB11 (io), 30 VDD12 (power), 31 VSS (power), 32 VDD (power), 33 PB12 (io), 34 PB13 (io), 35 PB14 (io), 36 PB15 (io), 37 PC6 (io), 38 PC7 (io), 39 PC8 (io), 40 PC9 (io), 41 PA8 (io), 42 PA9 (io), 43 PA10 (io), 44 PA11 (io), 45 PA12 (io), 46 PA13 (io), 47 VSS (power), 48 VDDUSB (power), 49 PA14 (io), 50 PA15 (io), 51 PC10 (io), 52 PC11 (io), 53 PC12 (io), 54 PB3 (io), 55 PB4 (io), 56 PB5 (io), 57 PB6 (io), 58 PB7 (io), 59 PH3 (io), 60 PB8 (io), 61 PB9 (io), 62 VDD12 (power), 63 VSS (power), 64 VDD (power)